# Altium integrated library Xilinx XC7000.IntLib: 173 symbols (part 3 of 9)
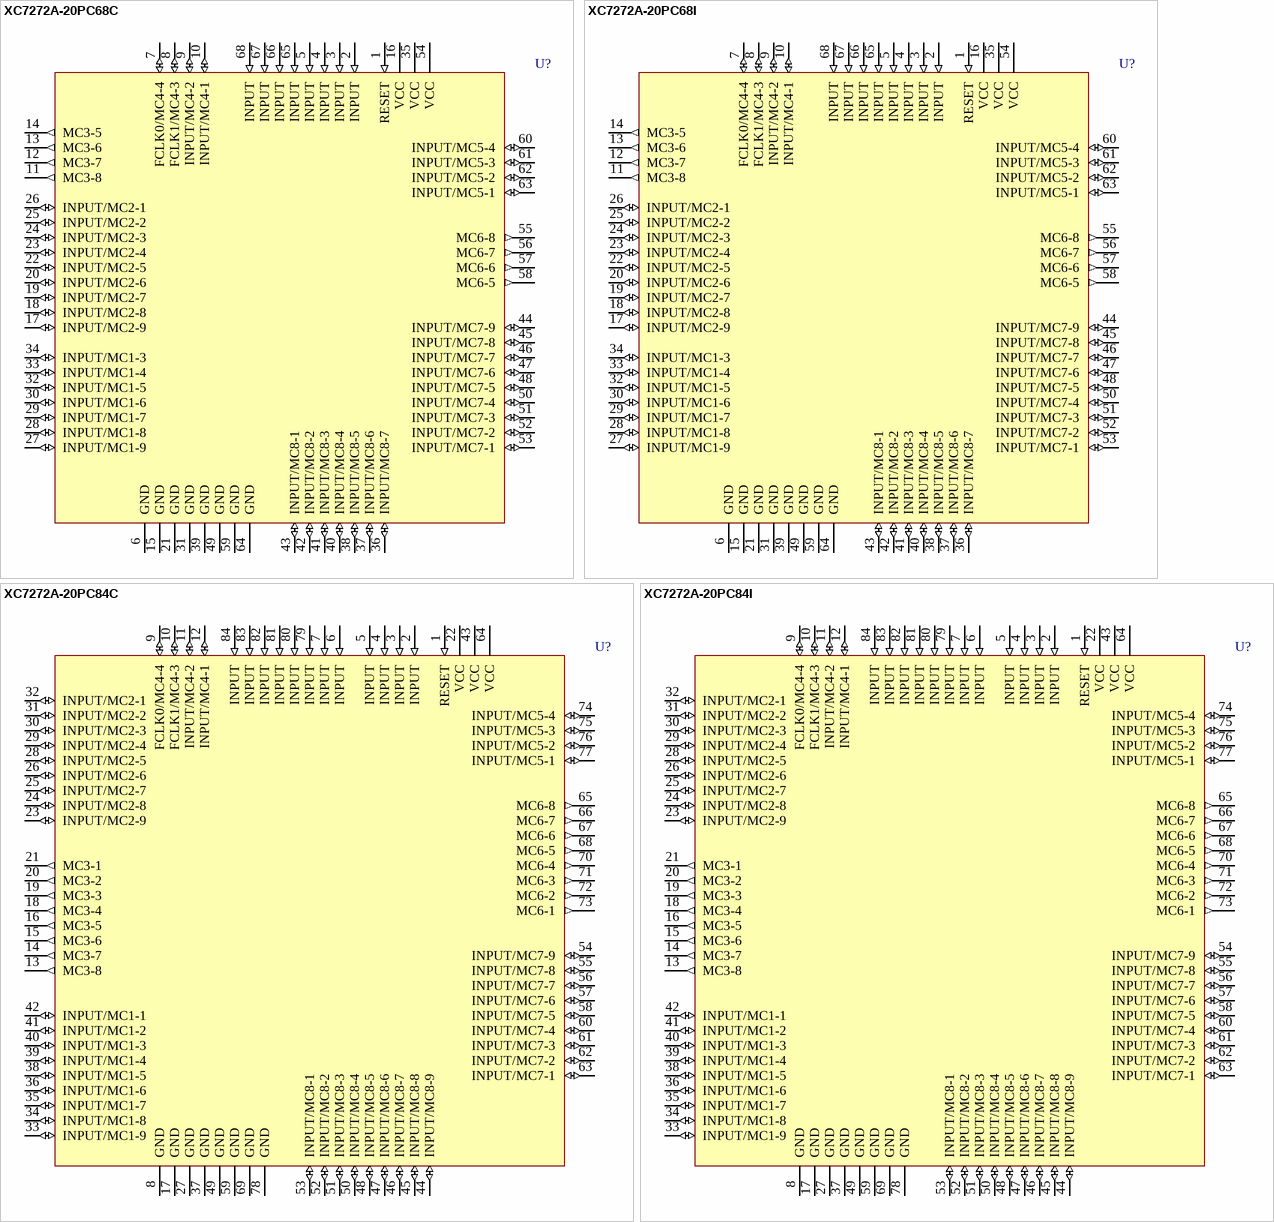
[diagram p49: symbols XC7272A-20PC68C to XC7272A-20PC84I]

## XC7272A-20PC68I
designator U?
72 Macrocell CMOS EPLD, with 38 I/O Pins, 68-Pin PLCC, Industrial Grade; Published: 8-Jun-2000; LatestRevisionDate: 13-Apr-2006; LatestRevisionNote: IPC-7351 Footprint Added.; DatasheetVersion: 1994; PackageVersion: ver1.2, Jun-2004; PackageReference: PC68; Publisher: Altium Limited; PackageDescription: 68-Pin Plastic Leaded Chip Carrier (PC68); Code_JEDEC: MO-047; Code_IPC: PLCC-68; ComponentLink1Description: Manufacturer Link; ComponentLink1URL: http://www.xilinx.com/; ComponentLink2Description: Discontinuation Notice; ComponentLink2URL: http://direct.xilinx.com/bvdocs/notifications/pdn97008a.pdf
footprint PC68_N (Leaded Chip Carrier, 68-Leads, Body 24x24mm, Pitch 1.27mm, IPC Medium Density)
footprint PC68_L (Leaded Chip Carrier, 68-Leads, Body 24x24mm, Pitch 1.27mm, IPC High Density)
footprint PC68_M (Leaded Chip Carrier, 68-Leads, Body 24x24mm, Pitch 1.27mm, IPC Low Density)
3D model XC7272A-PC68 (68-Pin Plastic Leaded Chip Carrier (PC68))
pins: 1 RESET (in), 2 INPUT (in), 3 INPUT (in), 4 INPUT (in), 5 INPUT (in), 6 GND (power), 7 FCLK0/MC4-4 (io), 8 FCLK1/MC4-3 (io), 9 INPUT/MC4-2 (io), 10 INPUT/MC4-1 (io), 11 MC3-8 (out), 12 MC3-7 (out), 13 MC3-6 (out), 14 MC3-5 (out), 15 GND (power), 16 VCC (power), 17 INPUT/MC2-9 (io), 18 INPUT/MC2-8 (io), 19 INPUT/MC2-7 (io), 20 INPUT/MC2-6 (io), 21 GND (power), 22 INPUT/MC2-5 (io), 23 INPUT/MC2-4 (io), 24 INPUT/MC2-3 (io), 25 INPUT/MC2-2 (io), 26 INPUT/MC2-1 (io), 27 INPUT/MC1-9 (io), 28 INPUT/MC1-8 (io), 29 INPUT/MC1-7 (io), 30 INPUT/MC1-6 (io), 31 GND (power), 32 INPUT/MC1-5 (io), 33 INPUT/MC1-4 (io), 34 INPUT/MC1-3 (io), 35 VCC (power), 36 INPUT/MC8-7 (io), 37 INPUT/MC8-6 (io), 38 INPUT/MC8-5 (io), 39 GND (power), 40 INPUT/MC8-4 (io), 41 INPUT/MC8-3 (io), 42 INPUT/MC8-2 (io), 43 INPUT/MC8-1 (io), 44 INPUT/MC7-9 (io), 45 INPUT/MC7-8 (io), 46 INPUT/MC7-7 (io), 47 INPUT/MC7-6 (io), 48 INPUT/MC7-5 (io), 49 GND (power), 50 INPUT/MC7-4 (io), 51 INPUT/MC7-3 (io), 52 INPUT/MC7-2 (io), 53 INPUT/MC7-1 (io), 54 VCC (power), 55 MC6-8 (out), 56 MC6-7 (out), 57 MC6-6 (out), 58 MC6-5 (out), 59 GND, 60 INPUT/MC5-4 (io), 61 INPUT/MC5-3 (io), 62 INPUT/MC5-2 (io), 63 INPUT/MC5-1 (io), 64 GND (power), 65 INPUT (in), 66 INPUT (in), 67 INPUT (in), 68 INPUT (in)

## XC7272A-20PC84C
designator U?
72 Macrocell CMOS EPLD, with 42 I/O Pins, 84-Pin PLCC, Commercial Grade; Published: 8-Jun-2000; LatestRevisionDate: 13-Apr-2006; LatestRevisionNote: IPC-7351 Footprint Added.; DatasheetVersion: 1994; PackageVersion: ver1.2, Jun-2004; PackageReference: PC84; Publisher: Altium Limited; PackageDescription: 84-Pin Plastic Leaded Chip Carrier (PC84); Code_JEDEC: MS-047; Code_IPC: PLCC-84; ComponentLink1Description: Manufacturer Link; ComponentLink1URL: http://www.xilinx.com/; ComponentLink2Description: Discontinuation Notice; ComponentLink2URL: http://direct.xilinx.com/bvdocs/notifications/pdn97008a.pdf
footprint PC84_N (Leaded Chip Carrier, 84-Leads, Body 29.3x29.3mm, Pitch 1.27mm, IPC Medium Density)
footprint PC84_L (Leaded Chip Carrier, 84-Leads, Body 29.3x29.3mm, Pitch 1.27mm, IPC High Density)
footprint PC84_M (Leaded Chip Carrier, 84-Leads, Body 29.3x29.3mm, Pitch 1.27mm, IPC Low Density)
3D model XC7272A-PC84 (84-Pin Plastic Leaded Chip Carrier (PC84))
pins: 1 RESET (in), 2 INPUT (in), 3 INPUT (in), 4 INPUT (in), 5 INPUT (in), 6 INPUT (in), 7 INPUT (in), 8 GND (power), 9 FCLK0/MC4-4 (io), 10 FCLK1/MC4-3 (io), 11 INPUT/MC4-2 (io), 12 INPUT/MC4-1 (io), 13 MC3-8 (out), 14 MC3-7 (out), 15 MC3-6 (out), 16 MC3-5 (out), 17 GND (power), 18 MC3-4 (out), 19 MC3-3 (out), 20 MC3-2 (out), 21 MC3-1 (out), 22 VCC (power), 23 INPUT/MC2-9 (io), 24 INPUT/MC2-8 (io), 25 INPUT/MC2-7 (io), 26 INPUT/MC2-6 (io), 27 GND (power), 28 INPUT/MC2-5 (io), 29 INPUT/MC2-4 (io), 30 INPUT/MC2-3 (io), 31 INPUT/MC2-2 (io), 32 INPUT/MC2-1 (io), 33 INPUT/MC1-9 (io), 34 INPUT/MC1-8 (io), 35 INPUT/MC1-7 (io), 36 INPUT/MC1-6 (io), 37 GND (power), 38 INPUT/MC1-5 (io), 39 INPUT/MC1-4 (io), 40 INPUT/MC1-3 (io), 41 INPUT/MC1-2 (io), 42 INPUT/MC1-1 (io), 43 VCC (power), 44 INPUT/MC8-9 (io), 45 INPUT/MC8-8 (io), 46 INPUT/MC8-7 (io), 47 INPUT/MC8-6 (io), 48 INPUT/MC8-5 (io), 49 GND (power), 50 INPUT/MC8-4 (io), 51 INPUT/MC8-3 (io), 52 INPUT/MC8-2 (io), 53 INPUT/MC8-1 (io), 54 INPUT/MC7-9 (io), 55 INPUT/MC7-8 (io), 56 INPUT/MC7-7 (io), 57 INPUT/MC7-6 (io), 58 INPUT/MC7-5 (io), 59 GND (power), 60 INPUT/MC7-4 (io), 61 INPUT/MC7-3 (io), 62 INPUT/MC7-2 (io), 63 INPUT/MC7-1 (io), 64 VCC (power), 65 MC6-8 (out), 66 MC6-7 (out), 67 MC6-6 (out), 68 MC6-5 (out), 69 GND (power), 70 MC6-4 (out), 71 MC6-3 (out), 72 MC6-2 (out), 73 MC6-1 (out), 74 INPUT/MC5-4 (io), 75 INPUT/MC5-3 (io), 76 INPUT/MC5-2 (io), 77 INPUT/MC5-1 (io), 78 GND (power), 79 INPUT (in), 80 INPUT (in), 81 INPUT (in), 82 INPUT (in), 83 INPUT (in), 84 INPUT (in)

## XC7272A-20PC84I
designator U?
72 Macrocell CMOS EPLD, with 42 I/O Pins, 84-Pin PLCC, Industrial Grade; Published: 8-Jun-2000; LatestRevisionDate: 13-Apr-2006; LatestRevisionNote: IPC-7351 Footprint Added.; DatasheetVersion: 1994; PackageVersion: ver1.2, Jun-2004; PackageReference: PC84; Publisher: Altium Limited; PackageDescription: 84-Pin Plastic Leaded Chip Carrier (PC84); Code_JEDEC: MS-047; Code_IPC: PLCC-84; ComponentLink1Description: Manufacturer Link; ComponentLink1URL: http://www.xilinx.com/; ComponentLink2Description: Discontinuation Notice; ComponentLink2URL: http://direct.xilinx.com/bvdocs/notifications/pdn97008a.pdf
footprint PC84_N (Leaded Chip Carrier, 84-Leads, Body 29.3x29.3mm, Pitch 1.27mm, IPC Medium Density)
footprint PC84_L (Leaded Chip Carrier, 84-Leads, Body 29.3x29.3mm, Pitch 1.27mm, IPC High Density)
footprint PC84_M (Leaded Chip Carrier, 84-Leads, Body 29.3x29.3mm, Pitch 1.27mm, IPC Low Density)
3D model XC7272A-PC84 (84-Pin Plastic Leaded Chip Carrier (PC84))
pins: 1 RESET (in), 2 INPUT (in), 3 INPUT (in), 4 INPUT (in), 5 INPUT (in), 6 INPUT (in), 7 INPUT (in), 8 GND (power), 9 FCLK0/MC4-4 (io), 10 FCLK1/MC4-3 (io), 11 INPUT/MC4-2 (io), 12 INPUT/MC4-1 (io), 13 MC3-8 (out), 14 MC3-7 (out), 15 MC3-6 (out), 16 MC3-5 (out), 17 GND (power), 18 MC3-4 (out), 19 MC3-3 (out), 20 MC3-2 (out), 21 MC3-1 (out), 22 VCC (power), 23 INPUT/MC2-9 (io), 24 INPUT/MC2-8 (io), 25 INPUT/MC2-7 (io), 26 INPUT/MC2-6 (io), 27 GND (power), 28 INPUT/MC2-5 (io), 29 INPUT/MC2-4 (io), 30 INPUT/MC2-3 (io), 31 INPUT/MC2-2 (io), 32 INPUT/MC2-1 (io), 33 INPUT/MC1-9 (io), 34 INPUT/MC1-8 (io), 35 INPUT/MC1-7 (io), 36 INPUT/MC1-6 (io), 37 GND (power), 38 INPUT/MC1-5 (io), 39 INPUT/MC1-4 (io), 40 INPUT/MC1-3 (io), 41 INPUT/MC1-2 (io), 42 INPUT/MC1-1 (io), 43 VCC (power), 44 INPUT/MC8-9 (io), 45 INPUT/MC8-8 (io), 46 INPUT/MC8-7 (io), 47 INPUT/MC8-6 (io), 48 INPUT/MC8-5 (io), 49 GND (power), 50 INPUT/MC8-4 (io), 51 INPUT/MC8-3 (io), 52 INPUT/MC8-2 (io), 53 INPUT/MC8-1 (io), 54 INPUT/MC7-9 (io), 55 INPUT/MC7-8 (io), 56 INPUT/MC7-7 (io), 57 INPUT/MC7-6 (io), 58 INPUT/MC7-5 (io), 59 GND (power), 60 INPUT/MC7-4 (io), 61 INPUT/MC7-3 (io), 62 INPUT/MC7-2 (io), 63 INPUT/MC7-1 (io), 64 VCC (power), 65 MC6-8 (out), 66 MC6-7 (out), 67 MC6-6 (out), 68 MC6-5 (out), 69 GND (power), 70 MC6-4 (out), 71 MC6-3 (out), 72 MC6-2 (out), 73 MC6-1 (out), 74 INPUT/MC5-4 (io), 75 INPUT/MC5-3 (io), 76 INPUT/MC5-2 (io), 77 INPUT/MC5-1 (io), 78 GND (power), 79 INPUT (in), 80 INPUT (in), 81 INPUT (in), 82 INPUT (in), 83 INPUT (in), 84 INPUT (in)

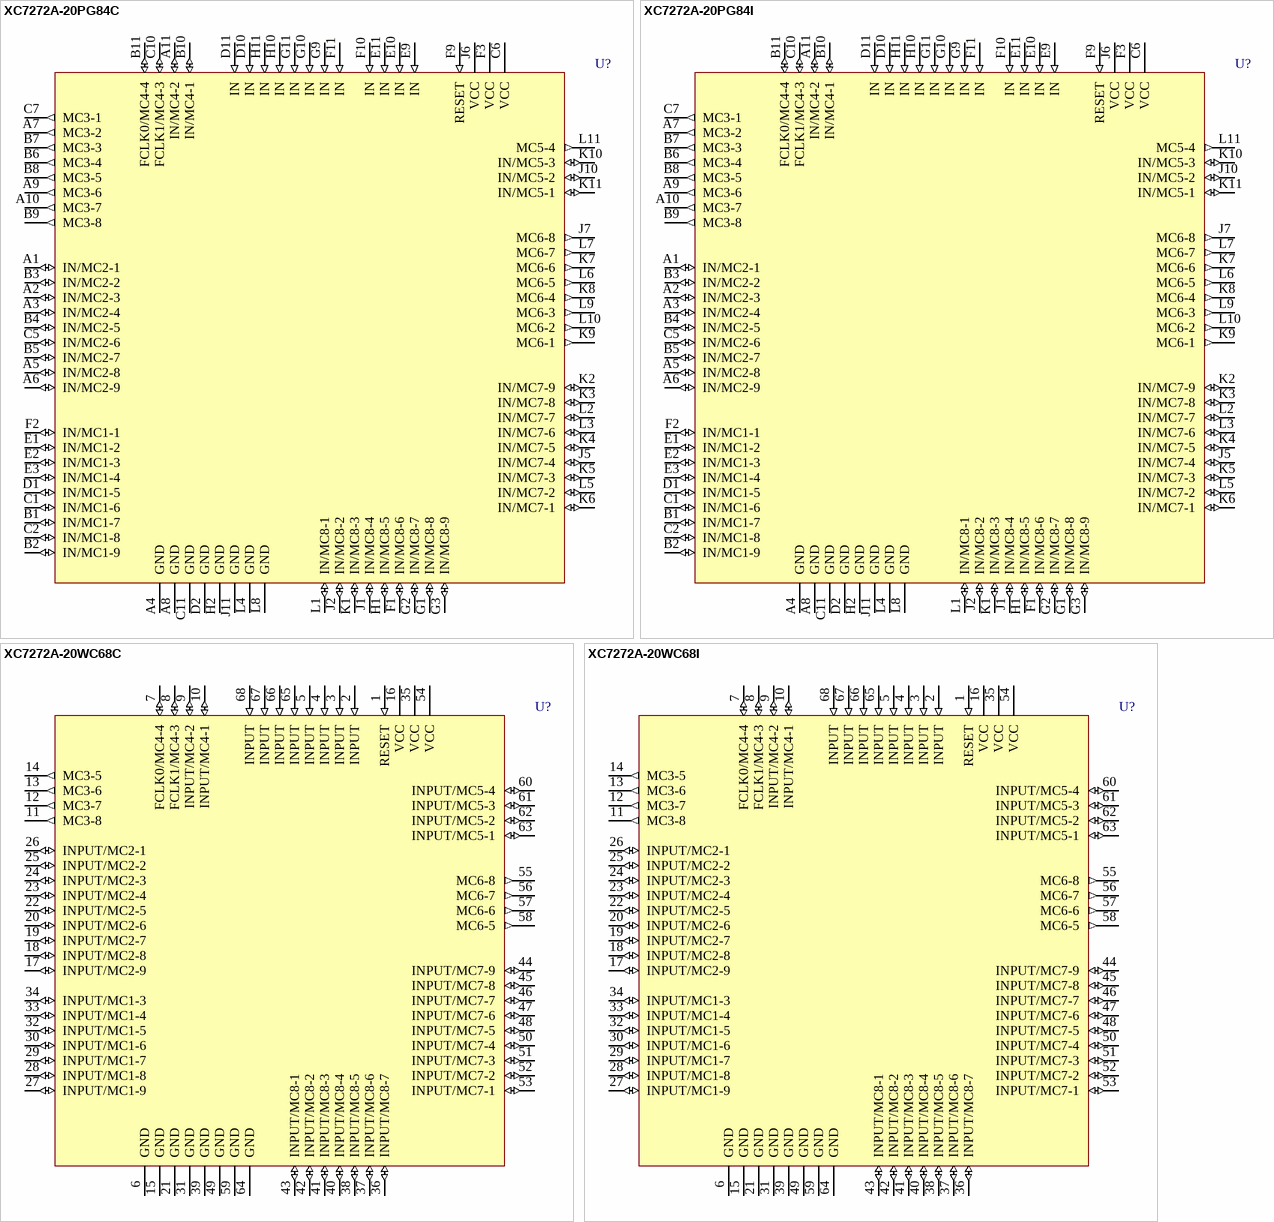
[diagram p10: symbols XC7272A-20PG84C to XC7272A-20WC68I]

## XC7272A-20PG84C
designator U?
72 Macrocell CMOS EPLD, with 42 I/O Pins, 84-Pin WCPGA, Commercial Grade; Published: 8-Jun-2000; LatestRevisionDate: 04-Mar-2005; LatestRevisionNote: Stylized 3D Model Added.; DatasheetVersion: 1994; PackageVersion: 1994; PackageReference: WG84; Publisher: Altium Limited; PackageDescription: 84-Pin Ceramic Window Pin Grid Array (WG84); ComponentLink1Description: Manufacturer Link; ComponentLink1URL: http://www.xilinx.com/; ComponentLink2Description: Discontinuation Notice; ComponentLink2URL: http://direct.xilinx.com/bvdocs/notifications/pdn97008a.pdf
footprint WG84 (PGA, 85-Leads, Body 28x28mm, Pitch 2.54mm)
3D model XC7272A-WG84 (84-Pin Ceramic Window Pin Grid Array (WG84))
pins: A1 IN/MC2-1 (io), A2 IN/MC2-3 (io), A3 IN/MC2-4 (io), A4 GND (power), A5 IN/MC2-8 (io), A6 IN/MC2-9 (io), A7 MC3-2 (out), A8 GND (power), A9 MC3-6 (out), A10 MC3-7 (out), A11 IN/MC4-2 (io), B1 IN/MC1-7 (io), B2 IN/MC1-9 (io), B3 IN/MC2-2 (io), B4 IN/MC2-5 (io), B5 IN/MC2-7 (io), B6 MC3-4 (out), B7 MC3-3 (out), B8 MC3-5 (out), B9 MC3-8 (out), B10 IN/MC4-1 (io), B11 FCLK0/MC4-4 (io), C1 IN/MC1-6 (io), C2 IN/MC1-8 (io), C5 IN/MC2-6 (io), C6 VCC (power), C7 MC3-1 (out), C10 FCLK1/MC4-3 (io), C11 GND (power), D1 IN/MC1-5 (io), D2 GND (power), D10 IN (in), D11 IN (in), E1 IN/MC1-2 (io), E2 IN/MC1-3 (io), E3 IN/MC1-4 (io), E9 IN (in), E10 IN (in), E11 IN (in), F1 IN/MC8-6 (io), F2 IN/MC1-1 (io), F3 VCC (power), F9 RESET (in), F10 IN (in), F11 IN (in), G1 IN/MC8-8 (io), G2 IN/MC8-7 (io), G3 IN/MC8-9 (io), G9 IN (in), G10 IN (in), G11 IN (in), H1 IN/MC8-5 (io), H2 GND (power), H10 IN (in), H11 IN (in), J1 IN/MC8-4 (io), J2 IN/MC8-2 (io), J5 IN/MC7-4 (io), J6 VCC (power), J7 MC6-8 (out), J10 IN/MC5-2 (io), J11 GND (power), K1 IN/MC8-3 (io), K2 IN/MC7-9 (io), K3 IN/MC7-8 (io), K4 IN/MC7-5 (io), K5 IN/MC7-3 (io), K6 IN/MC7-1 (io), K7 MC6-6 (out), K8 MC6-4 (out), K9 MC6-1 (out), K10 IN/MC5-3 (io), K11 IN/MC5-1 (io), L1 IN/MC8-1 (io), L2 IN/MC7-7 (io), L3 IN/MC7-6 (io), L4 GND (power), L5 IN/MC7-2 (io), L6 MC6-5 (out), L7 MC6-7 (out), L8 GND (power), L9 MC6-3 (out), L10 MC6-2 (out), L11 MC5-4 (out)

## XC7272A-20PG84I
designator U?
72 Macrocell CMOS EPLD, with 42 I/O Pins, 84-Pin WCPGA, Industrial Grade; Published: 8-Jun-2000; LatestRevisionDate: 04-Mar-2005; LatestRevisionNote: Stylized 3D Model Added.; DatasheetVersion: 1994; PackageVersion: 1994; PackageReference: WG84; Publisher: Altium Limited; PackageDescription: 84-Pin Ceramic Window Pin Grid Array (WG84); ComponentLink1Description: Manufacturer Link; ComponentLink1URL: http://www.xilinx.com/; ComponentLink2Description: Discontinuation Notice; ComponentLink2URL: http://direct.xilinx.com/bvdocs/notifications/pdn97008a.pdf
footprint WG84 (PGA, 85-Leads, Body 28x28mm, Pitch 2.54mm)
3D model XC7272A-WG84 (84-Pin Ceramic Window Pin Grid Array (WG84))
pins: A1 IN/MC2-1 (io), A2 IN/MC2-3 (io), A3 IN/MC2-4 (io), A4 GND (power), A5 IN/MC2-8 (io), A6 IN/MC2-9 (io), A7 MC3-2 (out), A8 GND (power), A9 MC3-6 (out), A10 MC3-7 (out), A11 IN/MC4-2 (io), B1 IN/MC1-7 (io), B2 IN/MC1-9 (io), B3 IN/MC2-2 (io), B4 IN/MC2-5 (io), B5 IN/MC2-7 (io), B6 MC3-4 (out), B7 MC3-3 (out), B8 MC3-5 (out), B9 MC3-8 (out), B10 IN/MC4-1 (io), B11 FCLK0/MC4-4 (io), C1 IN/MC1-6 (io), C2 IN/MC1-8 (io), C5 IN/MC2-6 (io), C6 VCC (power), C7 MC3-1 (out), C10 FCLK1/MC4-3 (io), C11 GND (power), D1 IN/MC1-5 (io), D2 GND (power), D10 IN (in), D11 IN (in), E1 IN/MC1-2 (io), E2 IN/MC1-3 (io), E3 IN/MC1-4 (io), E9 IN (in), E10 IN (in), E11 IN (in), F1 IN/MC8-6 (io), F2 IN/MC1-1 (io), F3 VCC (power), F9 RESET (in), F10 IN (in), F11 IN (in), G1 IN/MC8-8 (io), G2 IN/MC8-7 (io), G3 IN/MC8-9 (io), G9 IN (in), G10 IN (in), G11 IN (in), H1 IN/MC8-5 (io), H2 GND (power), H10 IN (in), H11 IN (in), J1 IN/MC8-4 (io), J2 IN/MC8-2 (io), J5 IN/MC7-4 (io), J6 VCC (power), J7 MC6-8 (out), J10 IN/MC5-2 (io), J11 GND (power), K1 IN/MC8-3 (io), K2 IN/MC7-9 (io), K3 IN/MC7-8 (io), K4 IN/MC7-5 (io), K5 IN/MC7-3 (io), K6 IN/MC7-1 (io), K7 MC6-6 (out), K8 MC6-4 (out), K9 MC6-1 (out), K10 IN/MC5-3 (io), K11 IN/MC5-1 (io), L1 IN/MC8-1 (io), L2 IN/MC7-7 (io), L3 IN/MC7-6 (io), L4 GND (power), L5 IN/MC7-2 (io), L6 MC6-5 (out), L7 MC6-7 (out), L8 GND (power), L9 MC6-3 (out), L10 MC6-2 (out), L11 MC5-4 (out)

## XC7272A-20WC68C
designator U?
72 Macrocell CMOS EPLD, with 38 I/O Pins, 68-Pin CLCC, Commercial Grade; Published: 8-Jun-2000; LatestRevisionDate: 13-Apr-2006; LatestRevisionNote: IPC-7351 Footprint Added.; DatasheetVersion: 1994; PackageVersion: 1994; PackageReference: WC68; Publisher: Altium Limited; PackageDescription: 68-Pin Window Ceramic Leaded Chip Carrier (WC68); Code_IPC: PLCC-68; ComponentLink1Description: Manufacturer Link; ComponentLink1URL: http://www.xilinx.com/; ComponentLink2Description: Discontinuation Notice; ComponentLink2URL: http://direct.xilinx.com/bvdocs/notifications/pdn97008a.pdf
footprint WC68_N (Leaded Chip Carrier, 68-Leads, Body 24x24mm, Pitch 1.27mm, IPC Medium Density)
footprint WC68_L (Leaded Chip Carrier, 68-Leads, Body 24x24mm, Pitch 1.27mm, IPC High Density)
footprint WC68_M (Leaded Chip Carrier, 68-Leads, Body 24x24mm, Pitch 1.27mm, IPC Low Density)
3D model XC7272A-WC68 (68-Pin Window Ceramic Leaded Chip Carrier (WC68))
pins: 1 RESET (in), 2 INPUT (in), 3 INPUT (in), 4 INPUT (in), 5 INPUT (in), 6 GND (power), 7 FCLK0/MC4-4 (io), 8 FCLK1/MC4-3 (io), 9 INPUT/MC4-2 (io), 10 INPUT/MC4-1 (io), 11 MC3-8 (out), 12 MC3-7 (out), 13 MC3-6 (out), 14 MC3-5 (out), 15 GND (power), 16 VCC (power), 17 INPUT/MC2-9 (io), 18 INPUT/MC2-8 (io), 19 INPUT/MC2-7 (io), 20 INPUT/MC2-6 (io), 21 GND (power), 22 INPUT/MC2-5 (io), 23 INPUT/MC2-4 (io), 24 INPUT/MC2-3 (io), 25 INPUT/MC2-2 (io), 26 INPUT/MC2-1 (io), 27 INPUT/MC1-9 (io), 28 INPUT/MC1-8 (io), 29 INPUT/MC1-7 (io), 30 INPUT/MC1-6 (io), 31 GND (power), 32 INPUT/MC1-5 (io), 33 INPUT/MC1-4 (io), 34 INPUT/MC1-3 (io), 35 VCC (power), 36 INPUT/MC8-7 (io), 37 INPUT/MC8-6 (io), 38 INPUT/MC8-5 (io), 39 GND (power), 40 INPUT/MC8-4 (io), 41 INPUT/MC8-3 (io), 42 INPUT/MC8-2 (io), 43 INPUT/MC8-1 (io), 44 INPUT/MC7-9 (io), 45 INPUT/MC7-8 (io), 46 INPUT/MC7-7 (io), 47 INPUT/MC7-6 (io), 48 INPUT/MC7-5 (io), 49 GND (power), 50 INPUT/MC7-4 (io), 51 INPUT/MC7-3 (io), 52 INPUT/MC7-2 (io), 53 INPUT/MC7-1 (io), 54 VCC (power), 55 MC6-8 (out), 56 MC6-7 (out), 57 MC6-6 (out), 58 MC6-5 (out), 59 GND, 60 INPUT/MC5-4 (io), 61 INPUT/MC5-3 (io), 62 INPUT/MC5-2 (io), 63 INPUT/MC5-1 (io), 64 GND (power), 65 INPUT (in), 66 INPUT (in), 67 INPUT (in), 68 INPUT (in)

## XC7272A-20WC68I
designator U?
72 Macrocell CMOS EPLD, with 38 I/O Pins, 68-Pin CLCC, Industrial Grade; Published: 8-Jun-2000; LatestRevisionDate: 13-Apr-2006; LatestRevisionNote: IPC-7351 Footprint Added.; DatasheetVersion: 1994; PackageVersion: 1994; PackageReference: WC68; Publisher: Altium Limited; PackageDescription: 68-Pin Window Ceramic Leaded Chip Carrier (WC68); Code_IPC: PLCC-68; ComponentLink1Description: Manufacturer Link; ComponentLink1URL: http://www.xilinx.com/; ComponentLink2Description: Discontinuation Notice; ComponentLink2URL: http://direct.xilinx.com/bvdocs/notifications/pdn97008a.pdf
footprint WC68_N (Leaded Chip Carrier, 68-Leads, Body 24x24mm, Pitch 1.27mm, IPC Medium Density)
footprint WC68_L (Leaded Chip Carrier, 68-Leads, Body 24x24mm, Pitch 1.27mm, IPC High Density)
footprint WC68_M (Leaded Chip Carrier, 68-Leads, Body 24x24mm, Pitch 1.27mm, IPC Low Density)
3D model XC7272A-WC68 (68-Pin Window Ceramic Leaded Chip Carrier (WC68))
pins: 1 RESET (in), 2 INPUT (in), 3 INPUT (in), 4 INPUT (in), 5 INPUT (in), 6 GND (power), 7 FCLK0/MC4-4 (io), 8 FCLK1/MC4-3 (io), 9 INPUT/MC4-2 (io), 10 INPUT/MC4-1 (io), 11 MC3-8 (out), 12 MC3-7 (out), 13 MC3-6 (out), 14 MC3-5 (out), 15 GND (power), 16 VCC (power), 17 INPUT/MC2-9 (io), 18 INPUT/MC2-8 (io), 19 INPUT/MC2-7 (io), 20 INPUT/MC2-6 (io), 21 GND (power), 22 INPUT/MC2-5 (io), 23 INPUT/MC2-4 (io), 24 INPUT/MC2-3 (io), 25 INPUT/MC2-2 (io), 26 INPUT/MC2-1 (io), 27 INPUT/MC1-9 (io), 28 INPUT/MC1-8 (io), 29 INPUT/MC1-7 (io), 30 INPUT/MC1-6 (io), 31 GND (power), 32 INPUT/MC1-5 (io), 33 INPUT/MC1-4 (io), 34 INPUT/MC1-3 (io), 35 VCC (power), 36 INPUT/MC8-7 (io), 37 INPUT/MC8-6 (io), 38 INPUT/MC8-5 (io), 39 GND (power), 40 INPUT/MC8-4 (io), 41 INPUT/MC8-3 (io), 42 INPUT/MC8-2 (io), 43 INPUT/MC8-1 (io), 44 INPUT/MC7-9 (io), 45 INPUT/MC7-8 (io), 46 INPUT/MC7-7 (io), 47 INPUT/MC7-6 (io), 48 INPUT/MC7-5 (io), 49 GND (power), 50 INPUT/MC7-4 (io), 51 INPUT/MC7-3 (io), 52 INPUT/MC7-2 (io), 53 INPUT/MC7-1 (io), 54 VCC (power), 55 MC6-8 (out), 56 MC6-7 (out), 57 MC6-6 (out), 58 MC6-5 (out), 59 GND, 60 INPUT/MC5-4 (io), 61 INPUT/MC5-3 (io), 62 INPUT/MC5-2 (io), 63 INPUT/MC5-1 (io), 64 GND (power), 65 INPUT (in), 66 INPUT (in), 67 INPUT (in), 68 INPUT (in)

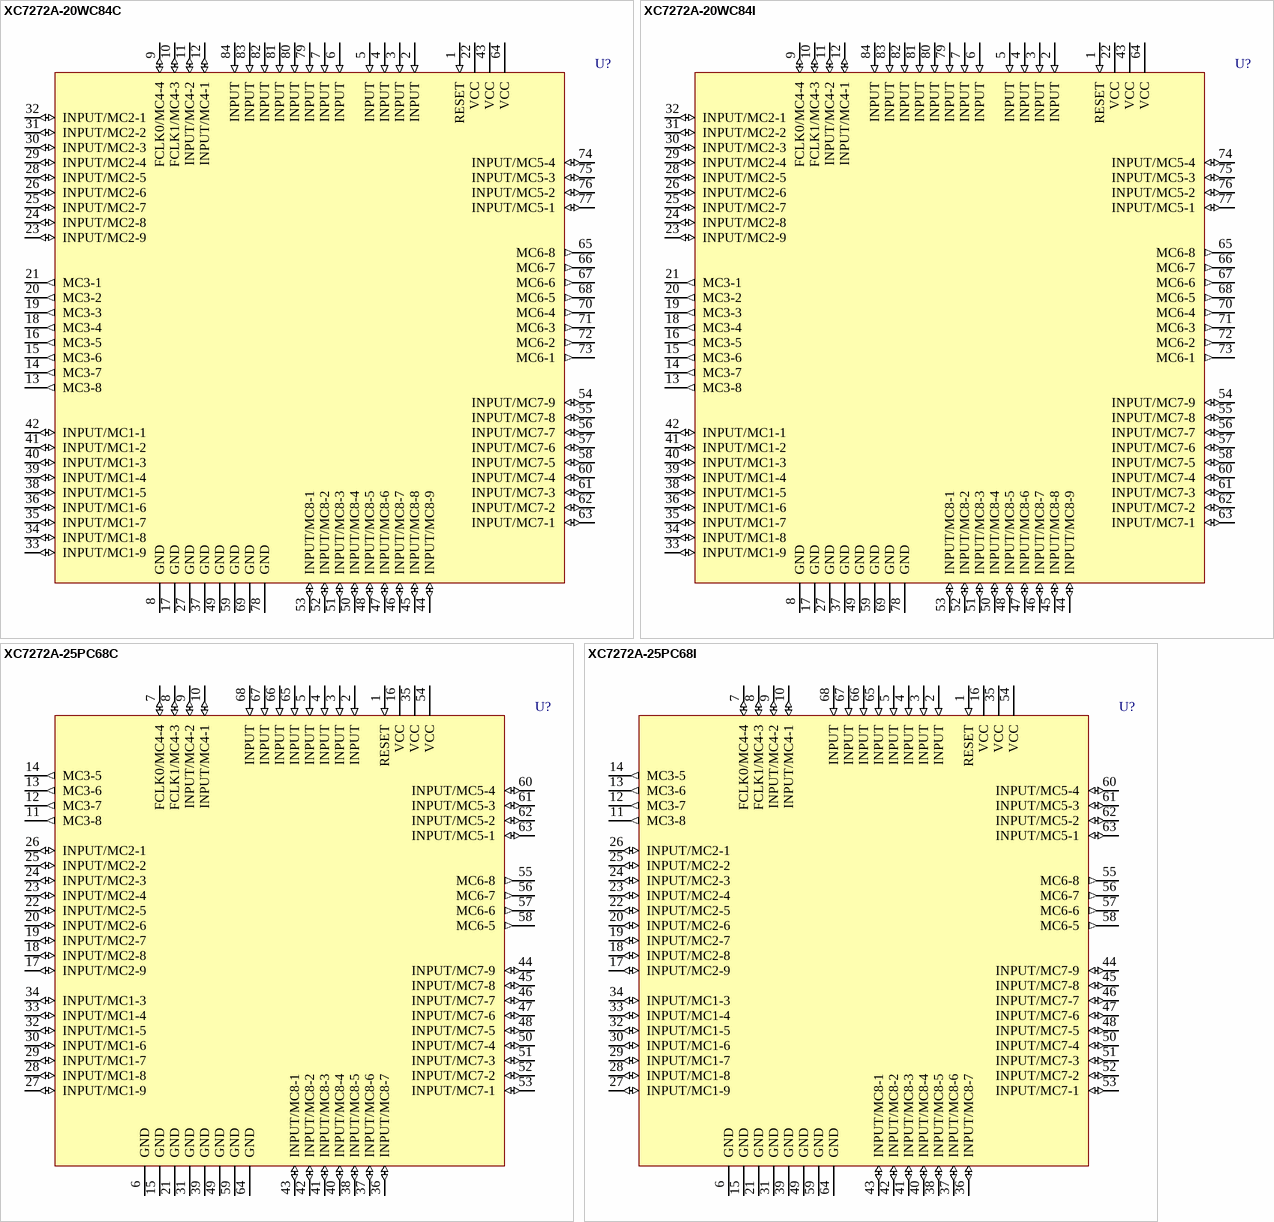
[diagram p11: symbols XC7272A-20WC84C to XC7272A-25PC68I]

## XC7272A-20WC84C
designator U?
72 Macrocell CMOS EPLD, with 42 I/O Pins, 84-Pin CLCC, Commercial Grade; Published: 8-Jun-2000; LatestRevisionDate: 13-Apr-2006; LatestRevisionNote: IPC-7351 Footprint Added.; DatasheetVersion: 1994; PackageVersion: 1994; PackageReference: WC84; Publisher: Altium Limited; PackageDescription: 84-Pin Window Ceramic Leaded Chip Carrier (WC84); Code_IPC: PLCC-84; ComponentLink1Description: Manufacturer Link; ComponentLink1URL: http://www.xilinx.com/; ComponentLink2Description: Discontinuation Notice; ComponentLink2URL: http://direct.xilinx.com/bvdocs/notifications/pdn97008a.pdf
footprint WC84_N (Leaded Chip Carrier, 84-Leads, Body 29x29mm, Pitch 1.27mm, IPC Medium Density)
footprint WC84_L (Leaded Chip Carrier, 84-Leads, Body 29x29mm, Pitch 1.27mm, IPC High Density)
footprint WC84_M (Leaded Chip Carrier, 84-Leads, Body 29x29mm, Pitch 1.27mm, IPC Low Density)
3D model XC7272A-WC84 (84-Pin Window Ceramic Leaded Chip Carrier (WC84))
pins: 1 RESET (in), 2 INPUT (in), 3 INPUT (in), 4 INPUT (in), 5 INPUT (in), 6 INPUT (in), 7 INPUT (in), 8 GND (power), 9 FCLK0/MC4-4 (io), 10 FCLK1/MC4-3 (io), 11 INPUT/MC4-2 (io), 12 INPUT/MC4-1 (io), 13 MC3-8 (out), 14 MC3-7 (out), 15 MC3-6 (out), 16 MC3-5 (out), 17 GND (power), 18 MC3-4 (out), 19 MC3-3 (out), 20 MC3-2 (out), 21 MC3-1 (out), 22 VCC (power), 23 INPUT/MC2-9 (io), 24 INPUT/MC2-8 (io), 25 INPUT/MC2-7 (io), 26 INPUT/MC2-6 (io), 27 GND (power), 28 INPUT/MC2-5 (io), 29 INPUT/MC2-4 (io), 30 INPUT/MC2-3 (io), 31 INPUT/MC2-2 (io), 32 INPUT/MC2-1 (io), 33 INPUT/MC1-9 (io), 34 INPUT/MC1-8 (io), 35 INPUT/MC1-7 (io), 36 INPUT/MC1-6 (io), 37 GND (power), 38 INPUT/MC1-5 (io), 39 INPUT/MC1-4 (io), 40 INPUT/MC1-3 (io), 41 INPUT/MC1-2 (io), 42 INPUT/MC1-1 (io), 43 VCC (power), 44 INPUT/MC8-9 (io), 45 INPUT/MC8-8 (io), 46 INPUT/MC8-7 (io), 47 INPUT/MC8-6 (io), 48 INPUT/MC8-5 (io), 49 GND (power), 50 INPUT/MC8-4 (io), 51 INPUT/MC8-3 (io), 52 INPUT/MC8-2 (io), 53 INPUT/MC8-1 (io), 54 INPUT/MC7-9 (io), 55 INPUT/MC7-8 (io), 56 INPUT/MC7-7 (io), 57 INPUT/MC7-6 (io), 58 INPUT/MC7-5 (io), 59 GND (power), 60 INPUT/MC7-4 (io), 61 INPUT/MC7-3 (io), 62 INPUT/MC7-2 (io), 63 INPUT/MC7-1 (io), 64 VCC (power), 65 MC6-8 (out), 66 MC6-7 (out), 67 MC6-6 (out), 68 MC6-5 (out), 69 GND (power), 70 MC6-4 (out), 71 MC6-3 (out), 72 MC6-2 (out), 73 MC6-1 (out), 74 INPUT/MC5-4 (io), 75 INPUT/MC5-3 (io), 76 INPUT/MC5-2 (io), 77 INPUT/MC5-1 (io), 78 GND (power), 79 INPUT (in), 80 INPUT (in), 81 INPUT (in), 82 INPUT (in), 83 INPUT (in), 84 INPUT (in)

## XC7272A-20WC84I
designator U?
72 Macrocell CMOS EPLD, with 42 I/O Pins, 84-Pin CLCC, Industrial Grade; Published: 8-Jun-2000; LatestRevisionDate: 13-Apr-2006; LatestRevisionNote: IPC-7351 Footprint Added.; DatasheetVersion: 1994; PackageVersion: 1994; PackageReference: WC84; Publisher: Altium Limited; PackageDescription: 84-Pin Window Ceramic Leaded Chip Carrier (WC84); Code_IPC: PLCC-84; ComponentLink1Description: Manufacturer Link; ComponentLink1URL: http://www.xilinx.com/; ComponentLink2Description: Discontinuation Notice; ComponentLink2URL: http://direct.xilinx.com/bvdocs/notifications/pdn97008a.pdf
footprint WC84_N (Leaded Chip Carrier, 84-Leads, Body 29x29mm, Pitch 1.27mm, IPC Medium Density)
footprint WC84_L (Leaded Chip Carrier, 84-Leads, Body 29x29mm, Pitch 1.27mm, IPC High Density)
footprint WC84_M (Leaded Chip Carrier, 84-Leads, Body 29x29mm, Pitch 1.27mm, IPC Low Density)
3D model XC7272A-WC84 (84-Pin Window Ceramic Leaded Chip Carrier (WC84))
pins: 1 RESET (in), 2 INPUT (in), 3 INPUT (in), 4 INPUT (in), 5 INPUT (in), 6 INPUT (in), 7 INPUT (in), 8 GND (power), 9 FCLK0/MC4-4 (io), 10 FCLK1/MC4-3 (io), 11 INPUT/MC4-2 (io), 12 INPUT/MC4-1 (io), 13 MC3-8 (out), 14 MC3-7 (out), 15 MC3-6 (out), 16 MC3-5 (out), 17 GND (power), 18 MC3-4 (out), 19 MC3-3 (out), 20 MC3-2 (out), 21 MC3-1 (out), 22 VCC (power), 23 INPUT/MC2-9 (io), 24 INPUT/MC2-8 (io), 25 INPUT/MC2-7 (io), 26 INPUT/MC2-6 (io), 27 GND (power), 28 INPUT/MC2-5 (io), 29 INPUT/MC2-4 (io), 30 INPUT/MC2-3 (io), 31 INPUT/MC2-2 (io), 32 INPUT/MC2-1 (io), 33 INPUT/MC1-9 (io), 34 INPUT/MC1-8 (io), 35 INPUT/MC1-7 (io), 36 INPUT/MC1-6 (io), 37 GND (power), 38 INPUT/MC1-5 (io), 39 INPUT/MC1-4 (io), 40 INPUT/MC1-3 (io), 41 INPUT/MC1-2 (io), 42 INPUT/MC1-1 (io), 43 VCC (power), 44 INPUT/MC8-9 (io), 45 INPUT/MC8-8 (io), 46 INPUT/MC8-7 (io), 47 INPUT/MC8-6 (io), 48 INPUT/MC8-5 (io), 49 GND (power), 50 INPUT/MC8-4 (io), 51 INPUT/MC8-3 (io), 52 INPUT/MC8-2 (io), 53 INPUT/MC8-1 (io), 54 INPUT/MC7-9 (io), 55 INPUT/MC7-8 (io), 56 INPUT/MC7-7 (io), 57 INPUT/MC7-6 (io), 58 INPUT/MC7-5 (io), 59 GND (power), 60 INPUT/MC7-4 (io), 61 INPUT/MC7-3 (io), 62 INPUT/MC7-2 (io), 63 INPUT/MC7-1 (io), 64 VCC (power), 65 MC6-8 (out), 66 MC6-7 (out), 67 MC6-6 (out), 68 MC6-5 (out), 69 GND (power), 70 MC6-4 (out), 71 MC6-3 (out), 72 MC6-2 (out), 73 MC6-1 (out), 74 INPUT/MC5-4 (io), 75 INPUT/MC5-3 (io), 76 INPUT/MC5-2 (io), 77 INPUT/MC5-1 (io), 78 GND (power), 79 INPUT (in), 80 INPUT (in), 81 INPUT (in), 82 INPUT (in), 83 INPUT (in), 84 INPUT (in)

## XC7272A-25PC68C
designator U?
72 Macrocell CMOS EPLD, with 38 I/O Pins, 68-Pin PLCC, Commercial Grade; Published: 8-Jun-2000; LatestRevisionDate: 13-Apr-2006; LatestRevisionNote: IPC-7351 Footprint Added.; DatasheetVersion: 1994; PackageVersion: ver1.2, Jun-2004; PackageReference: PC68; Publisher: Altium Limited; PackageDescription: 68-Pin Plastic Leaded Chip Carrier (PC68); Code_JEDEC: MO-047; Code_IPC: PLCC-68; ComponentLink1Description: Manufacturer Link; ComponentLink1URL: http://www.xilinx.com/; ComponentLink2Description: Discontinuation Notice; ComponentLink2URL: http://direct.xilinx.com/bvdocs/notifications/pdn97008a.pdf
footprint PC68_N (Leaded Chip Carrier, 68-Leads, Body 24x24mm, Pitch 1.27mm, IPC Medium Density)
footprint PC68_L (Leaded Chip Carrier, 68-Leads, Body 24x24mm, Pitch 1.27mm, IPC High Density)
footprint PC68_M (Leaded Chip Carrier, 68-Leads, Body 24x24mm, Pitch 1.27mm, IPC Low Density)
3D model XC7272A-PC68 (68-Pin Plastic Leaded Chip Carrier (PC68))
pins: 1 RESET (in), 2 INPUT (in), 3 INPUT (in), 4 INPUT (in), 5 INPUT (in), 6 GND (power), 7 FCLK0/MC4-4 (io), 8 FCLK1/MC4-3 (io), 9 INPUT/MC4-2 (io), 10 INPUT/MC4-1 (io), 11 MC3-8 (out), 12 MC3-7 (out), 13 MC3-6 (out), 14 MC3-5 (out), 15 GND (power), 16 VCC (power), 17 INPUT/MC2-9 (io), 18 INPUT/MC2-8 (io), 19 INPUT/MC2-7 (io), 20 INPUT/MC2-6 (io), 21 GND (power), 22 INPUT/MC2-5 (io), 23 INPUT/MC2-4 (io), 24 INPUT/MC2-3 (io), 25 INPUT/MC2-2 (io), 26 INPUT/MC2-1 (io), 27 INPUT/MC1-9 (io), 28 INPUT/MC1-8 (io), 29 INPUT/MC1-7 (io), 30 INPUT/MC1-6 (io), 31 GND (power), 32 INPUT/MC1-5 (io), 33 INPUT/MC1-4 (io), 34 INPUT/MC1-3 (io), 35 VCC (power), 36 INPUT/MC8-7 (io), 37 INPUT/MC8-6 (io), 38 INPUT/MC8-5 (io), 39 GND (power), 40 INPUT/MC8-4 (io), 41 INPUT/MC8-3 (io), 42 INPUT/MC8-2 (io), 43 INPUT/MC8-1 (io), 44 INPUT/MC7-9 (io), 45 INPUT/MC7-8 (io), 46 INPUT/MC7-7 (io), 47 INPUT/MC7-6 (io), 48 INPUT/MC7-5 (io), 49 GND (power), 50 INPUT/MC7-4 (io), 51 INPUT/MC7-3 (io), 52 INPUT/MC7-2 (io), 53 INPUT/MC7-1 (io), 54 VCC (power), 55 MC6-8 (out), 56 MC6-7 (out), 57 MC6-6 (out), 58 MC6-5 (out), 59 GND, 60 INPUT/MC5-4 (io), 61 INPUT/MC5-3 (io), 62 INPUT/MC5-2 (io), 63 INPUT/MC5-1 (io), 64 GND (power), 65 INPUT (in), 66 INPUT (in), 67 INPUT (in), 68 INPUT (in)

## XC7272A-25PC68I
designator U?
72 Macrocell CMOS EPLD, with 38 I/O Pins, 68-Pin PLCC, Industrial Grade; Published: 8-Jun-2000; LatestRevisionDate: 13-Apr-2006; LatestRevisionNote: IPC-7351 Footprint Added.; DatasheetVersion: 1994; PackageVersion: ver1.2, Jun-2004; PackageReference: PC68; Publisher: Altium Limited; PackageDescription: 68-Pin Plastic Leaded Chip Carrier (PC68); Code_JEDEC: MO-047; Code_IPC: PLCC-68; ComponentLink1Description: Manufacturer Link; ComponentLink1URL: http://www.xilinx.com/; ComponentLink2Description: Discontinuation Notice; ComponentLink2URL: http://direct.xilinx.com/bvdocs/notifications/pdn97008a.pdf
footprint PC68_N (Leaded Chip Carrier, 68-Leads, Body 24x24mm, Pitch 1.27mm, IPC Medium Density)
footprint PC68_L (Leaded Chip Carrier, 68-Leads, Body 24x24mm, Pitch 1.27mm, IPC High Density)
footprint PC68_M (Leaded Chip Carrier, 68-Leads, Body 24x24mm, Pitch 1.27mm, IPC Low Density)
3D model XC7272A-PC68 (68-Pin Plastic Leaded Chip Carrier (PC68))
pins: 1 RESET (in), 2 INPUT (in), 3 INPUT (in), 4 INPUT (in), 5 INPUT (in), 6 GND (power), 7 FCLK0/MC4-4 (io), 8 FCLK1/MC4-3 (io), 9 INPUT/MC4-2 (io), 10 INPUT/MC4-1 (io), 11 MC3-8 (out), 12 MC3-7 (out), 13 MC3-6 (out), 14 MC3-5 (out), 15 GND (power), 16 VCC (power), 17 INPUT/MC2-9 (io), 18 INPUT/MC2-8 (io), 19 INPUT/MC2-7 (io), 20 INPUT/MC2-6 (io), 21 GND (power), 22 INPUT/MC2-5 (io), 23 INPUT/MC2-4 (io), 24 INPUT/MC2-3 (io), 25 INPUT/MC2-2 (io), 26 INPUT/MC2-1 (io), 27 INPUT/MC1-9 (io), 28 INPUT/MC1-8 (io), 29 INPUT/MC1-7 (io), 30 INPUT/MC1-6 (io), 31 GND (power), 32 INPUT/MC1-5 (io), 33 INPUT/MC1-4 (io), 34 INPUT/MC1-3 (io), 35 VCC (power), 36 INPUT/MC8-7 (io), 37 INPUT/MC8-6 (io), 38 INPUT/MC8-5 (io), 39 GND (power), 40 INPUT/MC8-4 (io), 41 INPUT/MC8-3 (io), 42 INPUT/MC8-2 (io), 43 INPUT/MC8-1 (io), 44 INPUT/MC7-9 (io), 45 INPUT/MC7-8 (io), 46 INPUT/MC7-7 (io), 47 INPUT/MC7-6 (io), 48 INPUT/MC7-5 (io), 49 GND (power), 50 INPUT/MC7-4 (io), 51 INPUT/MC7-3 (io), 52 INPUT/MC7-2 (io), 53 INPUT/MC7-1 (io), 54 VCC (power), 55 MC6-8 (out), 56 MC6-7 (out), 57 MC6-6 (out), 58 MC6-5 (out), 59 GND, 60 INPUT/MC5-4 (io), 61 INPUT/MC5-3 (io), 62 INPUT/MC5-2 (io), 63 INPUT/MC5-1 (io), 64 GND (power), 65 INPUT (in), 66 INPUT (in), 67 INPUT (in), 68 INPUT (in)

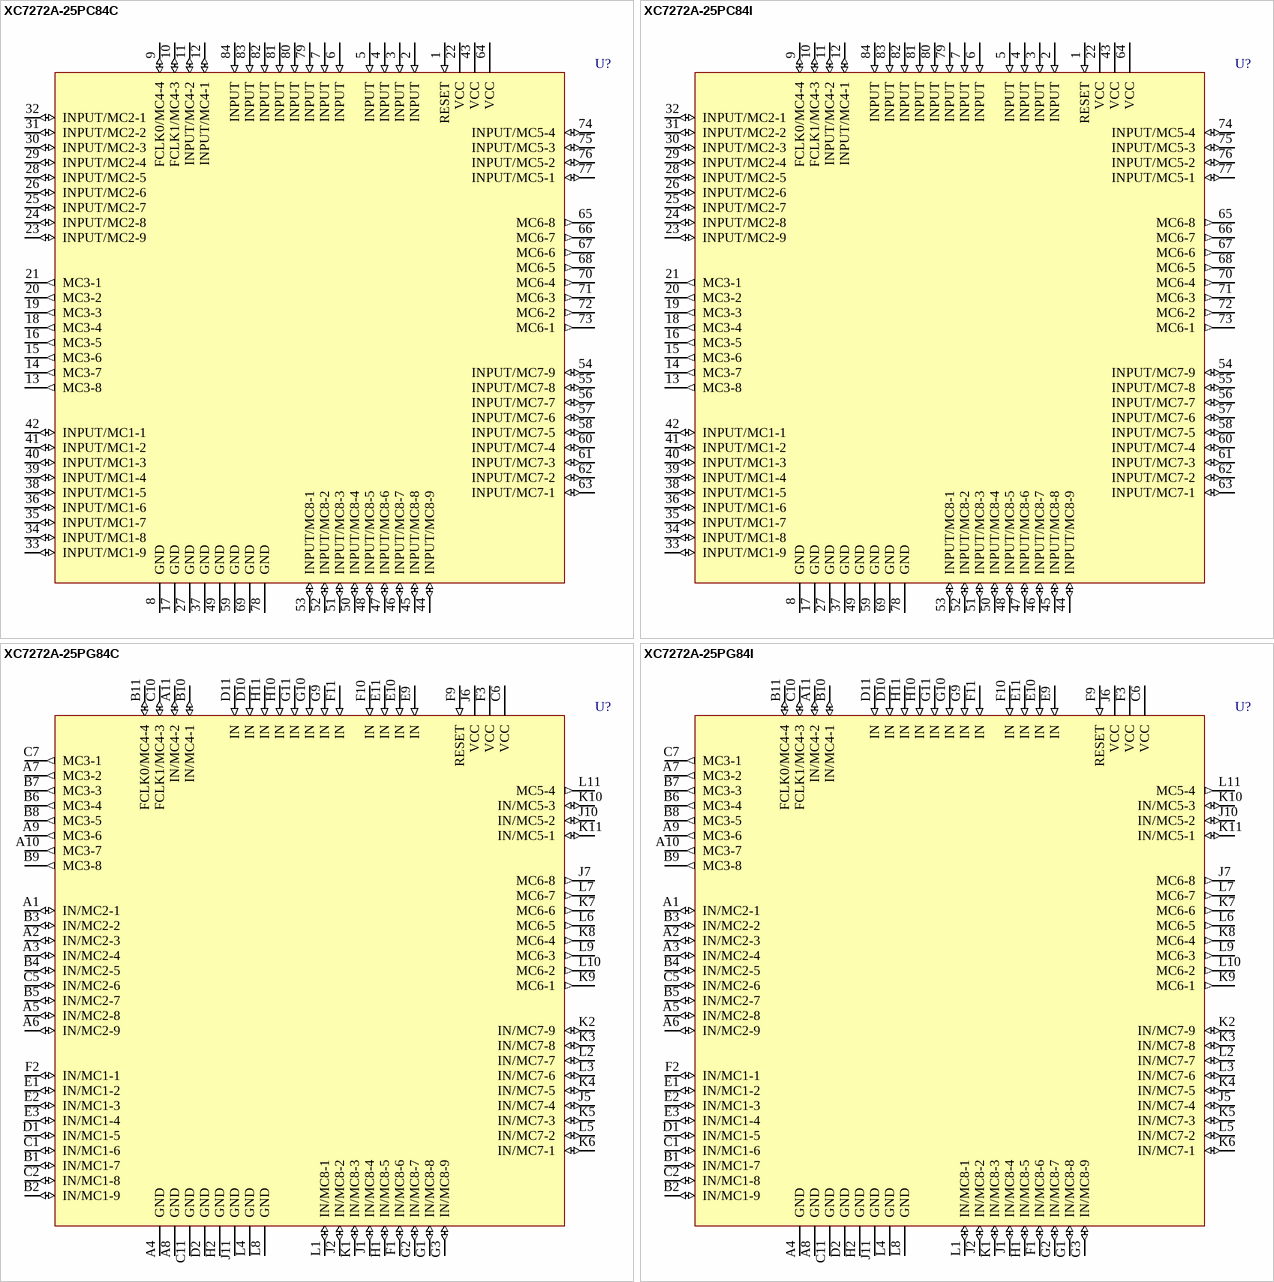
[diagram p12: symbols XC7272A-25PC84C to XC7272A-25PG84I]

## XC7272A-25PC84C
designator U?
72 Macrocell CMOS EPLD, with 42 I/O Pins, 84-Pin PLCC, Commercial Grade; Published: 8-Jun-2000; LatestRevisionDate: 13-Apr-2006; LatestRevisionNote: IPC-7351 Footprint Added.; DatasheetVersion: 1994; PackageVersion: ver1.2, Jun-2004; PackageReference: PC84; Publisher: Altium Limited; PackageDescription: 84-Pin Plastic Leaded Chip Carrier (PC84); Code_JEDEC: MS-047; Code_IPC: PLCC-84; ComponentLink1Description: Manufacturer Link; ComponentLink1URL: http://www.xilinx.com/; ComponentLink2Description: Discontinuation Notice; ComponentLink2URL: http://direct.xilinx.com/bvdocs/notifications/pdn97008a.pdf
footprint PC84_N (Leaded Chip Carrier, 84-Leads, Body 29.3x29.3mm, Pitch 1.27mm, IPC Medium Density)
footprint PC84_L (Leaded Chip Carrier, 84-Leads, Body 29.3x29.3mm, Pitch 1.27mm, IPC High Density)
footprint PC84_M (Leaded Chip Carrier, 84-Leads, Body 29.3x29.3mm, Pitch 1.27mm, IPC Low Density)
3D model XC7272A-PC84 (84-Pin Plastic Leaded Chip Carrier (PC84))
pins: 1 RESET (in), 2 INPUT (in), 3 INPUT (in), 4 INPUT (in), 5 INPUT (in), 6 INPUT (in), 7 INPUT (in), 8 GND (power), 9 FCLK0/MC4-4 (io), 10 FCLK1/MC4-3 (io), 11 INPUT/MC4-2 (io), 12 INPUT/MC4-1 (io), 13 MC3-8 (out), 14 MC3-7 (out), 15 MC3-6 (out), 16 MC3-5 (out), 17 GND (power), 18 MC3-4 (out), 19 MC3-3 (out), 20 MC3-2 (out), 21 MC3-1 (out), 22 VCC (power), 23 INPUT/MC2-9 (io), 24 INPUT/MC2-8 (io), 25 INPUT/MC2-7 (io), 26 INPUT/MC2-6 (io), 27 GND (power), 28 INPUT/MC2-5 (io), 29 INPUT/MC2-4 (io), 30 INPUT/MC2-3 (io), 31 INPUT/MC2-2 (io), 32 INPUT/MC2-1 (io), 33 INPUT/MC1-9 (io), 34 INPUT/MC1-8 (io), 35 INPUT/MC1-7 (io), 36 INPUT/MC1-6 (io), 37 GND (power), 38 INPUT/MC1-5 (io), 39 INPUT/MC1-4 (io), 40 INPUT/MC1-3 (io), 41 INPUT/MC1-2 (io), 42 INPUT/MC1-1 (io), 43 VCC (power), 44 INPUT/MC8-9 (io), 45 INPUT/MC8-8 (io), 46 INPUT/MC8-7 (io), 47 INPUT/MC8-6 (io), 48 INPUT/MC8-5 (io), 49 GND (power), 50 INPUT/MC8-4 (io), 51 INPUT/MC8-3 (io), 52 INPUT/MC8-2 (io), 53 INPUT/MC8-1 (io), 54 INPUT/MC7-9 (io), 55 INPUT/MC7-8 (io), 56 INPUT/MC7-7 (io), 57 INPUT/MC7-6 (io), 58 INPUT/MC7-5 (io), 59 GND (power), 60 INPUT/MC7-4 (io), 61 INPUT/MC7-3 (io), 62 INPUT/MC7-2 (io), 63 INPUT/MC7-1 (io), 64 VCC (power), 65 MC6-8 (out), 66 MC6-7 (out), 67 MC6-6 (out), 68 MC6-5 (out), 69 GND (power), 70 MC6-4 (out), 71 MC6-3 (out), 72 MC6-2 (out), 73 MC6-1 (out), 74 INPUT/MC5-4 (io), 75 INPUT/MC5-3 (io), 76 INPUT/MC5-2 (io), 77 INPUT/MC5-1 (io), 78 GND (power), 79 INPUT (in), 80 INPUT (in), 81 INPUT (in), 82 INPUT (in), 83 INPUT (in), 84 INPUT (in)

## XC7272A-25PC84I
designator U?
72 Macrocell CMOS EPLD, with 42 I/O Pins, 84-Pin PLCC, Industrial Grade; Published: 8-Jun-2000; LatestRevisionDate: 13-Apr-2006; LatestRevisionNote: IPC-7351 Footprint Added.; DatasheetVersion: 1994; PackageVersion: ver1.2, Jun-2004; PackageReference: PC84; Publisher: Altium Limited; PackageDescription: 84-Pin Plastic Leaded Chip Carrier (PC84); Code_JEDEC: MS-047; Code_IPC: PLCC-84; ComponentLink1Description: Manufacturer Link; ComponentLink1URL: http://www.xilinx.com/; ComponentLink2Description: Discontinuation Notice; ComponentLink2URL: http://direct.xilinx.com/bvdocs/notifications/pdn97008a.pdf
footprint PC84_N (Leaded Chip Carrier, 84-Leads, Body 29.3x29.3mm, Pitch 1.27mm, IPC Medium Density)
footprint PC84_L (Leaded Chip Carrier, 84-Leads, Body 29.3x29.3mm, Pitch 1.27mm, IPC High Density)
footprint PC84_M (Leaded Chip Carrier, 84-Leads, Body 29.3x29.3mm, Pitch 1.27mm, IPC Low Density)
3D model XC7272A-PC84 (84-Pin Plastic Leaded Chip Carrier (PC84))
pins: 1 RESET (in), 2 INPUT (in), 3 INPUT (in), 4 INPUT (in), 5 INPUT (in), 6 INPUT (in), 7 INPUT (in), 8 GND (power), 9 FCLK0/MC4-4 (io), 10 FCLK1/MC4-3 (io), 11 INPUT/MC4-2 (io), 12 INPUT/MC4-1 (io), 13 MC3-8 (out), 14 MC3-7 (out), 15 MC3-6 (out), 16 MC3-5 (out), 17 GND (power), 18 MC3-4 (out), 19 MC3-3 (out), 20 MC3-2 (out), 21 MC3-1 (out), 22 VCC (power), 23 INPUT/MC2-9 (io), 24 INPUT/MC2-8 (io), 25 INPUT/MC2-7 (io), 26 INPUT/MC2-6 (io), 27 GND (power), 28 INPUT/MC2-5 (io), 29 INPUT/MC2-4 (io), 30 INPUT/MC2-3 (io), 31 INPUT/MC2-2 (io), 32 INPUT/MC2-1 (io), 33 INPUT/MC1-9 (io), 34 INPUT/MC1-8 (io), 35 INPUT/MC1-7 (io), 36 INPUT/MC1-6 (io), 37 GND (power), 38 INPUT/MC1-5 (io), 39 INPUT/MC1-4 (io), 40 INPUT/MC1-3 (io), 41 INPUT/MC1-2 (io), 42 INPUT/MC1-1 (io), 43 VCC (power), 44 INPUT/MC8-9 (io), 45 INPUT/MC8-8 (io), 46 INPUT/MC8-7 (io), 47 INPUT/MC8-6 (io), 48 INPUT/MC8-5 (io), 49 GND (power), 50 INPUT/MC8-4 (io), 51 INPUT/MC8-3 (io), 52 INPUT/MC8-2 (io), 53 INPUT/MC8-1 (io), 54 INPUT/MC7-9 (io), 55 INPUT/MC7-8 (io), 56 INPUT/MC7-7 (io), 57 INPUT/MC7-6 (io), 58 INPUT/MC7-5 (io), 59 GND (power), 60 INPUT/MC7-4 (io), 61 INPUT/MC7-3 (io), 62 INPUT/MC7-2 (io), 63 INPUT/MC7-1 (io), 64 VCC (power), 65 MC6-8 (out), 66 MC6-7 (out), 67 MC6-6 (out), 68 MC6-5 (out), 69 GND (power), 70 MC6-4 (out), 71 MC6-3 (out), 72 MC6-2 (out), 73 MC6-1 (out), 74 INPUT/MC5-4 (io), 75 INPUT/MC5-3 (io), 76 INPUT/MC5-2 (io), 77 INPUT/MC5-1 (io), 78 GND (power), 79 INPUT (in), 80 INPUT (in), 81 INPUT (in), 82 INPUT (in), 83 INPUT (in), 84 INPUT (in)

## XC7272A-25PG84C
designator U?
72 Macrocell CMOS EPLD, with 42 I/O Pins, 84-Pin WCPGA, Commercial Grade; Published: 8-Jun-2000; LatestRevisionDate: 04-Mar-2005; LatestRevisionNote: Stylized 3D Model Added.; DatasheetVersion: 1994; PackageVersion: 1994; PackageReference: WG84; Publisher: Altium Limited; PackageDescription: 84-Pin Ceramic Window Pin Grid Array (WG84); ComponentLink1Description: Manufacturer Link; ComponentLink1URL: http://www.xilinx.com/; ComponentLink2Description: Discontinuation Notice; ComponentLink2URL: http://direct.xilinx.com/bvdocs/notifications/pdn97008a.pdf
footprint WG84 (PGA, 85-Leads, Body 28x28mm, Pitch 2.54mm)
3D model XC7272A-WG84 (84-Pin Ceramic Window Pin Grid Array (WG84))
pins: A1 IN/MC2-1 (io), A2 IN/MC2-3 (io), A3 IN/MC2-4 (io), A4 GND (power), A5 IN/MC2-8 (io), A6 IN/MC2-9 (io), A7 MC3-2 (out), A8 GND (power), A9 MC3-6 (out), A10 MC3-7 (out), A11 IN/MC4-2 (io), B1 IN/MC1-7 (io), B2 IN/MC1-9 (io), B3 IN/MC2-2 (io), B4 IN/MC2-5 (io), B5 IN/MC2-7 (io), B6 MC3-4 (out), B7 MC3-3 (out), B8 MC3-5 (out), B9 MC3-8 (out), B10 IN/MC4-1 (io), B11 FCLK0/MC4-4 (io), C1 IN/MC1-6 (io), C2 IN/MC1-8 (io), C5 IN/MC2-6 (io), C6 VCC (power), C7 MC3-1 (out), C10 FCLK1/MC4-3 (io), C11 GND (power), D1 IN/MC1-5 (io), D2 GND (power), D10 IN (in), D11 IN (in), E1 IN/MC1-2 (io), E2 IN/MC1-3 (io), E3 IN/MC1-4 (io), E9 IN (in), E10 IN (in), E11 IN (in), F1 IN/MC8-6 (io), F2 IN/MC1-1 (io), F3 VCC (power), F9 RESET (in), F10 IN (in), F11 IN (in), G1 IN/MC8-8 (io), G2 IN/MC8-7 (io), G3 IN/MC8-9 (io), G9 IN (in), G10 IN (in), G11 IN (in), H1 IN/MC8-5 (io), H2 GND (power), H10 IN (in), H11 IN (in), J1 IN/MC8-4 (io), J2 IN/MC8-2 (io), J5 IN/MC7-4 (io), J6 VCC (power), J7 MC6-8 (out), J10 IN/MC5-2 (io), J11 GND (power), K1 IN/MC8-3 (io), K2 IN/MC7-9 (io), K3 IN/MC7-8 (io), K4 IN/MC7-5 (io), K5 IN/MC7-3 (io), K6 IN/MC7-1 (io), K7 MC6-6 (out), K8 MC6-4 (out), K9 MC6-1 (out), K10 IN/MC5-3 (io), K11 IN/MC5-1 (io), L1 IN/MC8-1 (io), L2 IN/MC7-7 (io), L3 IN/MC7-6 (io), L4 GND (power), L5 IN/MC7-2 (io), L6 MC6-5 (out), L7 MC6-7 (out), L8 GND (power), L9 MC6-3 (out), L10 MC6-2 (out), L11 MC5-4 (out)

## XC7272A-25PG84I
designator U?
72 Macrocell CMOS EPLD, with 42 I/O Pins, 84-Pin WCPGA, Industrial Grade; Published: 8-Jun-2000; LatestRevisionDate: 04-Mar-2005; LatestRevisionNote: Stylized 3D Model Added.; DatasheetVersion: 1994; PackageVersion: 1994; PackageReference: WG84; Publisher: Altium Limited; PackageDescription: 84-Pin Ceramic Window Pin Grid Array (WG84); ComponentLink1Description: Manufacturer Link; ComponentLink1URL: http://www.xilinx.com/; ComponentLink2Description: Discontinuation Notice; ComponentLink2URL: http://direct.xilinx.com/bvdocs/notifications/pdn97008a.pdf
footprint WG84 (PGA, 85-Leads, Body 28x28mm, Pitch 2.54mm)
3D model XC7272A-WG84 (84-Pin Ceramic Window Pin Grid Array (WG84))
pins: A1 IN/MC2-1 (io), A2 IN/MC2-3 (io), A3 IN/MC2-4 (io), A4 GND (power), A5 IN/MC2-8 (io), A6 IN/MC2-9 (io), A7 MC3-2 (out), A8 GND (power), A9 MC3-6 (out), A10 MC3-7 (out), A11 IN/MC4-2 (io), B1 IN/MC1-7 (io), B2 IN/MC1-9 (io), B3 IN/MC2-2 (io), B4 IN/MC2-5 (io), B5 IN/MC2-7 (io), B6 MC3-4 (out), B7 MC3-3 (out), B8 MC3-5 (out), B9 MC3-8 (out), B10 IN/MC4-1 (io), B11 FCLK0/MC4-4 (io), C1 IN/MC1-6 (io), C2 IN/MC1-8 (io), C5 IN/MC2-6 (io), C6 VCC (power), C7 MC3-1 (out), C10 FCLK1/MC4-3 (io), C11 GND (power), D1 IN/MC1-5 (io), D2 GND (power), D10 IN (in), D11 IN (in), E1 IN/MC1-2 (io), E2 IN/MC1-3 (io), E3 IN/MC1-4 (io), E9 IN (in), E10 IN (in), E11 IN (in), F1 IN/MC8-6 (io), F2 IN/MC1-1 (io), F3 VCC (power), F9 RESET (in), F10 IN (in), F11 IN (in), G1 IN/MC8-8 (io), G2 IN/MC8-7 (io), G3 IN/MC8-9 (io), G9 IN (in), G10 IN (in), G11 IN (in), H1 IN/MC8-5 (io), H2 GND (power), H10 IN (in), H11 IN (in), J1 IN/MC8-4 (io), J2 IN/MC8-2 (io), J5 IN/MC7-4 (io), J6 VCC (power), J7 MC6-8 (out), J10 IN/MC5-2 (io), J11 GND (power), K1 IN/MC8-3 (io), K2 IN/MC7-9 (io), K3 IN/MC7-8 (io), K4 IN/MC7-5 (io), K5 IN/MC7-3 (io), K6 IN/MC7-1 (io), K7 MC6-6 (out), K8 MC6-4 (out), K9 MC6-1 (out), K10 IN/MC5-3 (io), K11 IN/MC5-1 (io), L1 IN/MC8-1 (io), L2 IN/MC7-7 (io), L3 IN/MC7-6 (io), L4 GND (power), L5 IN/MC7-2 (io), L6 MC6-5 (out), L7 MC6-7 (out), L8 GND (power), L9 MC6-3 (out), L10 MC6-2 (out), L11 MC5-4 (out)

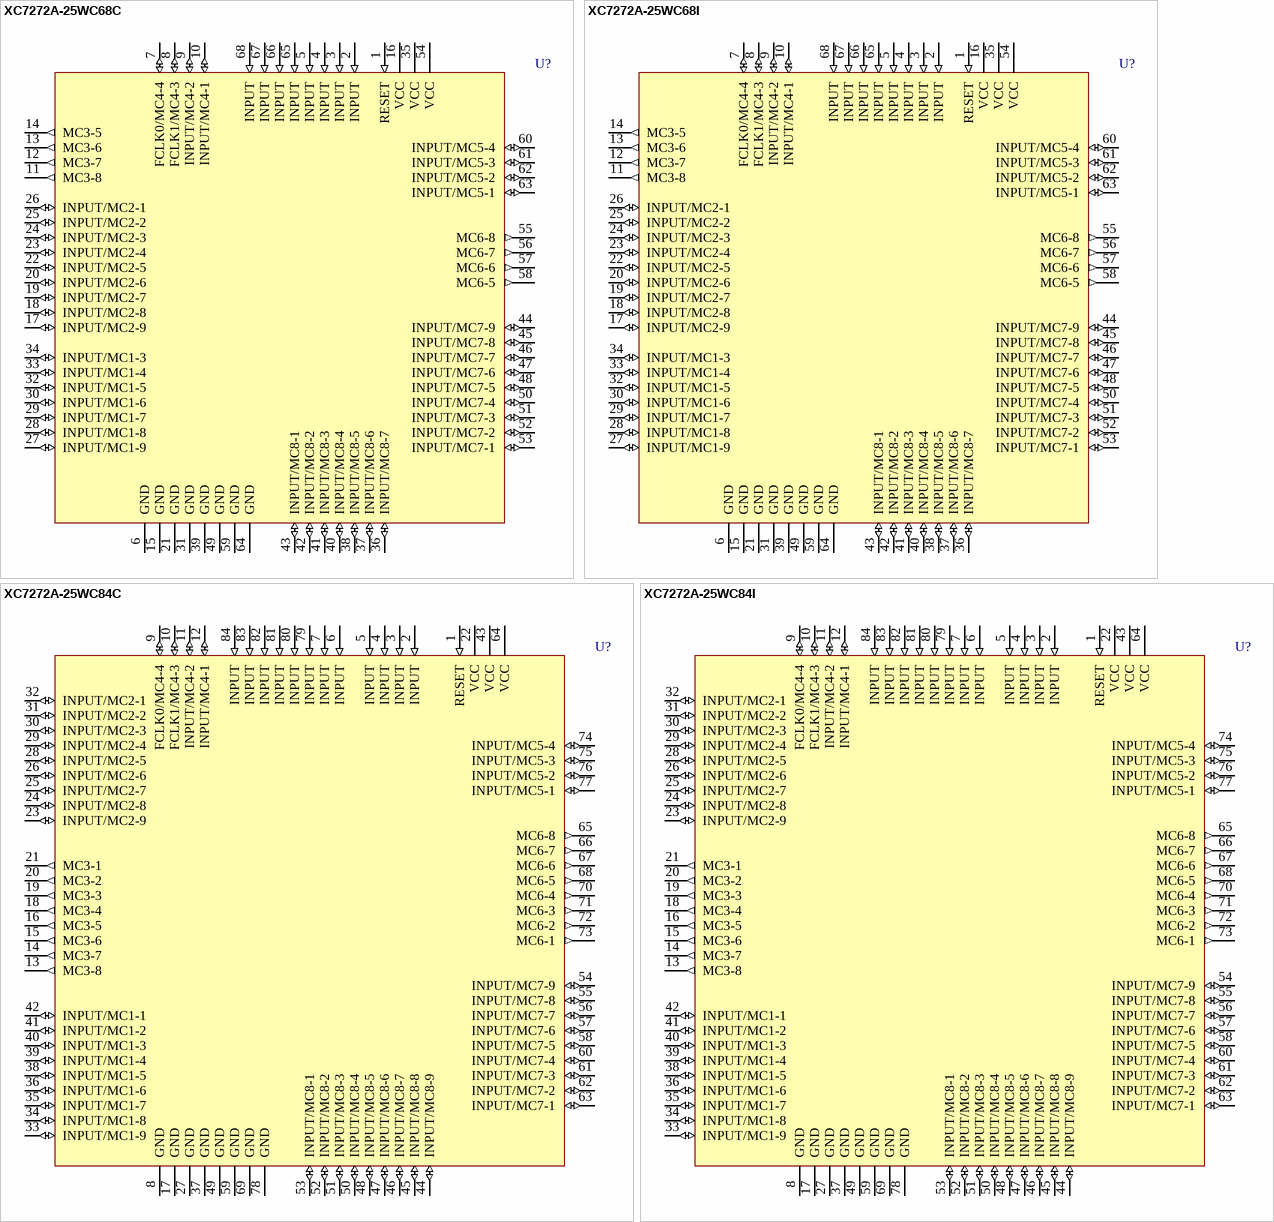
[diagram p13: symbols XC7272A-25WC68C to XC7272A-25WC84I]

## XC7272A-25WC68C
designator U?
72 Macrocell CMOS EPLD, with 38 I/O Pins, 68-Pin CLCC, Commercial Grade; Published: 8-Jun-2000; LatestRevisionDate: 13-Apr-2006; LatestRevisionNote: IPC-7351 Footprint Added.; DatasheetVersion: 1994; PackageVersion: 1994; PackageReference: WC68; Publisher: Altium Limited; PackageDescription: 68-Pin Window Ceramic Leaded Chip Carrier (WC68); Code_IPC: PLCC-68; ComponentLink1Description: Manufacturer Link; ComponentLink1URL: http://www.xilinx.com/; ComponentLink2Description: Discontinuation Notice; ComponentLink2URL: http://direct.xilinx.com/bvdocs/notifications/pdn97008a.pdf
footprint WC68_N (Leaded Chip Carrier, 68-Leads, Body 24x24mm, Pitch 1.27mm, IPC Medium Density)
footprint WC68_L (Leaded Chip Carrier, 68-Leads, Body 24x24mm, Pitch 1.27mm, IPC High Density)
footprint WC68_M (Leaded Chip Carrier, 68-Leads, Body 24x24mm, Pitch 1.27mm, IPC Low Density)
3D model XC7272A-WC68 (68-Pin Window Ceramic Leaded Chip Carrier (WC68))
pins: 1 RESET (in), 2 INPUT (in), 3 INPUT (in), 4 INPUT (in), 5 INPUT (in), 6 GND (power), 7 FCLK0/MC4-4 (io), 8 FCLK1/MC4-3 (io), 9 INPUT/MC4-2 (io), 10 INPUT/MC4-1 (io), 11 MC3-8 (out), 12 MC3-7 (out), 13 MC3-6 (out), 14 MC3-5 (out), 15 GND (power), 16 VCC (power), 17 INPUT/MC2-9 (io), 18 INPUT/MC2-8 (io), 19 INPUT/MC2-7 (io), 20 INPUT/MC2-6 (io), 21 GND (power), 22 INPUT/MC2-5 (io), 23 INPUT/MC2-4 (io), 24 INPUT/MC2-3 (io), 25 INPUT/MC2-2 (io), 26 INPUT/MC2-1 (io), 27 INPUT/MC1-9 (io), 28 INPUT/MC1-8 (io), 29 INPUT/MC1-7 (io), 30 INPUT/MC1-6 (io), 31 GND (power), 32 INPUT/MC1-5 (io), 33 INPUT/MC1-4 (io), 34 INPUT/MC1-3 (io), 35 VCC (power), 36 INPUT/MC8-7 (io), 37 INPUT/MC8-6 (io), 38 INPUT/MC8-5 (io), 39 GND (power), 40 INPUT/MC8-4 (io), 41 INPUT/MC8-3 (io), 42 INPUT/MC8-2 (io), 43 INPUT/MC8-1 (io), 44 INPUT/MC7-9 (io), 45 INPUT/MC7-8 (io), 46 INPUT/MC7-7 (io), 47 INPUT/MC7-6 (io), 48 INPUT/MC7-5 (io), 49 GND (power), 50 INPUT/MC7-4 (io), 51 INPUT/MC7-3 (io), 52 INPUT/MC7-2 (io), 53 INPUT/MC7-1 (io), 54 VCC (power), 55 MC6-8 (out), 56 MC6-7 (out), 57 MC6-6 (out), 58 MC6-5 (out), 59 GND, 60 INPUT/MC5-4 (io), 61 INPUT/MC5-3 (io), 62 INPUT/MC5-2 (io), 63 INPUT/MC5-1 (io), 64 GND (power), 65 INPUT (in), 66 INPUT (in), 67 INPUT (in), 68 INPUT (in)

## XC7272A-25WC68I
designator U?
72 Macrocell CMOS EPLD, with 38 I/O Pins, 68-Pin CLCC, Industrial Grade; Published: 8-Jun-2000; LatestRevisionDate: 13-Apr-2006; LatestRevisionNote: IPC-7351 Footprint Added.; DatasheetVersion: 1994; PackageVersion: 1994; PackageReference: WC68; Publisher: Altium Limited; PackageDescription: 68-Pin Window Ceramic Leaded Chip Carrier (WC68); Code_IPC: PLCC-68; ComponentLink1Description: Manufacturer Link; ComponentLink1URL: http://www.xilinx.com/; ComponentLink2Description: Discontinuation Notice; ComponentLink2URL: http://direct.xilinx.com/bvdocs/notifications/pdn97008a.pdf
footprint WC68_N (Leaded Chip Carrier, 68-Leads, Body 24x24mm, Pitch 1.27mm, IPC Medium Density)
footprint WC68_L (Leaded Chip Carrier, 68-Leads, Body 24x24mm, Pitch 1.27mm, IPC High Density)
footprint WC68_M (Leaded Chip Carrier, 68-Leads, Body 24x24mm, Pitch 1.27mm, IPC Low Density)
3D model XC7272A-WC68 (68-Pin Window Ceramic Leaded Chip Carrier (WC68))
pins: 1 RESET (in), 2 INPUT (in), 3 INPUT (in), 4 INPUT (in), 5 INPUT (in), 6 GND (power), 7 FCLK0/MC4-4 (io), 8 FCLK1/MC4-3 (io), 9 INPUT/MC4-2 (io), 10 INPUT/MC4-1 (io), 11 MC3-8 (out), 12 MC3-7 (out), 13 MC3-6 (out), 14 MC3-5 (out), 15 GND (power), 16 VCC (power), 17 INPUT/MC2-9 (io), 18 INPUT/MC2-8 (io), 19 INPUT/MC2-7 (io), 20 INPUT/MC2-6 (io), 21 GND (power), 22 INPUT/MC2-5 (io), 23 INPUT/MC2-4 (io), 24 INPUT/MC2-3 (io), 25 INPUT/MC2-2 (io), 26 INPUT/MC2-1 (io), 27 INPUT/MC1-9 (io), 28 INPUT/MC1-8 (io), 29 INPUT/MC1-7 (io), 30 INPUT/MC1-6 (io), 31 GND (power), 32 INPUT/MC1-5 (io), 33 INPUT/MC1-4 (io), 34 INPUT/MC1-3 (io), 35 VCC (power), 36 INPUT/MC8-7 (io), 37 INPUT/MC8-6 (io), 38 INPUT/MC8-5 (io), 39 GND (power), 40 INPUT/MC8-4 (io), 41 INPUT/MC8-3 (io), 42 INPUT/MC8-2 (io), 43 INPUT/MC8-1 (io), 44 INPUT/MC7-9 (io), 45 INPUT/MC7-8 (io), 46 INPUT/MC7-7 (io), 47 INPUT/MC7-6 (io), 48 INPUT/MC7-5 (io), 49 GND (power), 50 INPUT/MC7-4 (io), 51 INPUT/MC7-3 (io), 52 INPUT/MC7-2 (io), 53 INPUT/MC7-1 (io), 54 VCC (power), 55 MC6-8 (out), 56 MC6-7 (out), 57 MC6-6 (out), 58 MC6-5 (out), 59 GND, 60 INPUT/MC5-4 (io), 61 INPUT/MC5-3 (io), 62 INPUT/MC5-2 (io), 63 INPUT/MC5-1 (io), 64 GND (power), 65 INPUT (in), 66 INPUT (in), 67 INPUT (in), 68 INPUT (in)

## XC7272A-25WC84C
designator U?
72 Macrocell CMOS EPLD, with 42 I/O Pins, 84-Pin CLCC, Commercial Grade; Published: 8-Jun-2000; LatestRevisionDate: 13-Apr-2006; LatestRevisionNote: IPC-7351 Footprint Added.; DatasheetVersion: 1994; PackageVersion: 1994; PackageReference: WC84; Publisher: Altium Limited; PackageDescription: 84-Pin Window Ceramic Leaded Chip Carrier (WC84); Code_IPC: PLCC-84; ComponentLink1Description: Manufacturer Link; ComponentLink1URL: http://www.xilinx.com/; ComponentLink2Description: Discontinuation Notice; ComponentLink2URL: http://direct.xilinx.com/bvdocs/notifications/pdn97008a.pdf
footprint WC84_N (Leaded Chip Carrier, 84-Leads, Body 29x29mm, Pitch 1.27mm, IPC Medium Density)
footprint WC84_L (Leaded Chip Carrier, 84-Leads, Body 29x29mm, Pitch 1.27mm, IPC High Density)
footprint WC84_M (Leaded Chip Carrier, 84-Leads, Body 29x29mm, Pitch 1.27mm, IPC Low Density)
3D model XC7272A-WC84 (84-Pin Window Ceramic Leaded Chip Carrier (WC84))
pins: 1 RESET (in), 2 INPUT (in), 3 INPUT (in), 4 INPUT (in), 5 INPUT (in), 6 INPUT (in), 7 INPUT (in), 8 GND (power), 9 FCLK0/MC4-4 (io), 10 FCLK1/MC4-3 (io), 11 INPUT/MC4-2 (io), 12 INPUT/MC4-1 (io), 13 MC3-8 (out), 14 MC3-7 (out), 15 MC3-6 (out), 16 MC3-5 (out), 17 GND (power), 18 MC3-4 (out), 19 MC3-3 (out), 20 MC3-2 (out), 21 MC3-1 (out), 22 VCC (power), 23 INPUT/MC2-9 (io), 24 INPUT/MC2-8 (io), 25 INPUT/MC2-7 (io), 26 INPUT/MC2-6 (io), 27 GND (power), 28 INPUT/MC2-5 (io), 29 INPUT/MC2-4 (io), 30 INPUT/MC2-3 (io), 31 INPUT/MC2-2 (io), 32 INPUT/MC2-1 (io), 33 INPUT/MC1-9 (io), 34 INPUT/MC1-8 (io), 35 INPUT/MC1-7 (io), 36 INPUT/MC1-6 (io), 37 GND (power), 38 INPUT/MC1-5 (io), 39 INPUT/MC1-4 (io), 40 INPUT/MC1-3 (io), 41 INPUT/MC1-2 (io), 42 INPUT/MC1-1 (io), 43 VCC (power), 44 INPUT/MC8-9 (io), 45 INPUT/MC8-8 (io), 46 INPUT/MC8-7 (io), 47 INPUT/MC8-6 (io), 48 INPUT/MC8-5 (io), 49 GND (power), 50 INPUT/MC8-4 (io), 51 INPUT/MC8-3 (io), 52 INPUT/MC8-2 (io), 53 INPUT/MC8-1 (io), 54 INPUT/MC7-9 (io), 55 INPUT/MC7-8 (io), 56 INPUT/MC7-7 (io), 57 INPUT/MC7-6 (io), 58 INPUT/MC7-5 (io), 59 GND (power), 60 INPUT/MC7-4 (io), 61 INPUT/MC7-3 (io), 62 INPUT/MC7-2 (io), 63 INPUT/MC7-1 (io), 64 VCC (power), 65 MC6-8 (out), 66 MC6-7 (out), 67 MC6-6 (out), 68 MC6-5 (out), 69 GND (power), 70 MC6-4 (out), 71 MC6-3 (out), 72 MC6-2 (out), 73 MC6-1 (out), 74 INPUT/MC5-4 (io), 75 INPUT/MC5-3 (io), 76 INPUT/MC5-2 (io), 77 INPUT/MC5-1 (io), 78 GND (power), 79 INPUT (in), 80 INPUT (in), 81 INPUT (in), 82 INPUT (in), 83 INPUT (in), 84 INPUT (in)

## XC7272A-25WC84I
designator U?
72 Macrocell CMOS EPLD, with 42 I/O Pins, 84-Pin CLCC, Industrial Grade; Published: 8-Jun-2000; LatestRevisionDate: 13-Apr-2006; LatestRevisionNote: IPC-7351 Footprint Added.; DatasheetVersion: 1994; PackageVersion: 1994; PackageReference: WC84; Publisher: Altium Limited; PackageDescription: 84-Pin Window Ceramic Leaded Chip Carrier (WC84); Code_IPC: PLCC-84; ComponentLink1Description: Manufacturer Link; ComponentLink1URL: http://www.xilinx.com/; ComponentLink2Description: Discontinuation Notice; ComponentLink2URL: http://direct.xilinx.com/bvdocs/notifications/pdn97008a.pdf
footprint WC84_N (Leaded Chip Carrier, 84-Leads, Body 29x29mm, Pitch 1.27mm, IPC Medium Density)
footprint WC84_L (Leaded Chip Carrier, 84-Leads, Body 29x29mm, Pitch 1.27mm, IPC High Density)
footprint WC84_M (Leaded Chip Carrier, 84-Leads, Body 29x29mm, Pitch 1.27mm, IPC Low Density)
3D model XC7272A-WC84 (84-Pin Window Ceramic Leaded Chip Carrier (WC84))
pins: 1 RESET (in), 2 INPUT (in), 3 INPUT (in), 4 INPUT (in), 5 INPUT (in), 6 INPUT (in), 7 INPUT (in), 8 GND (power), 9 FCLK0/MC4-4 (io), 10 FCLK1/MC4-3 (io), 11 INPUT/MC4-2 (io), 12 INPUT/MC4-1 (io), 13 MC3-8 (out), 14 MC3-7 (out), 15 MC3-6 (out), 16 MC3-5 (out), 17 GND (power), 18 MC3-4 (out), 19 MC3-3 (out), 20 MC3-2 (out), 21 MC3-1 (out), 22 VCC (power), 23 INPUT/MC2-9 (io), 24 INPUT/MC2-8 (io), 25 INPUT/MC2-7 (io), 26 INPUT/MC2-6 (io), 27 GND (power), 28 INPUT/MC2-5 (io), 29 INPUT/MC2-4 (io), 30 INPUT/MC2-3 (io), 31 INPUT/MC2-2 (io), 32 INPUT/MC2-1 (io), 33 INPUT/MC1-9 (io), 34 INPUT/MC1-8 (io), 35 INPUT/MC1-7 (io), 36 INPUT/MC1-6 (io), 37 GND (power), 38 INPUT/MC1-5 (io), 39 INPUT/MC1-4 (io), 40 INPUT/MC1-3 (io), 41 INPUT/MC1-2 (io), 42 INPUT/MC1-1 (io), 43 VCC (power), 44 INPUT/MC8-9 (io), 45 INPUT/MC8-8 (io), 46 INPUT/MC8-7 (io), 47 INPUT/MC8-6 (io), 48 INPUT/MC8-5 (io), 49 GND (power), 50 INPUT/MC8-4 (io), 51 INPUT/MC8-3 (io), 52 INPUT/MC8-2 (io), 53 INPUT/MC8-1 (io), 54 INPUT/MC7-9 (io), 55 INPUT/MC7-8 (io), 56 INPUT/MC7-7 (io), 57 INPUT/MC7-6 (io), 58 INPUT/MC7-5 (io), 59 GND (power), 60 INPUT/MC7-4 (io), 61 INPUT/MC7-3 (io), 62 INPUT/MC7-2 (io), 63 INPUT/MC7-1 (io), 64 VCC (power), 65 MC6-8 (out), 66 MC6-7 (out), 67 MC6-6 (out), 68 MC6-5 (out), 69 GND (power), 70 MC6-4 (out), 71 MC6-3 (out), 72 MC6-2 (out), 73 MC6-1 (out), 74 INPUT/MC5-4 (io), 75 INPUT/MC5-3 (io), 76 INPUT/MC5-2 (io), 77 INPUT/MC5-1 (io), 78 GND (power), 79 INPUT (in), 80 INPUT (in), 81 INPUT (in), 82 INPUT (in), 83 INPUT (in), 84 INPUT (in)

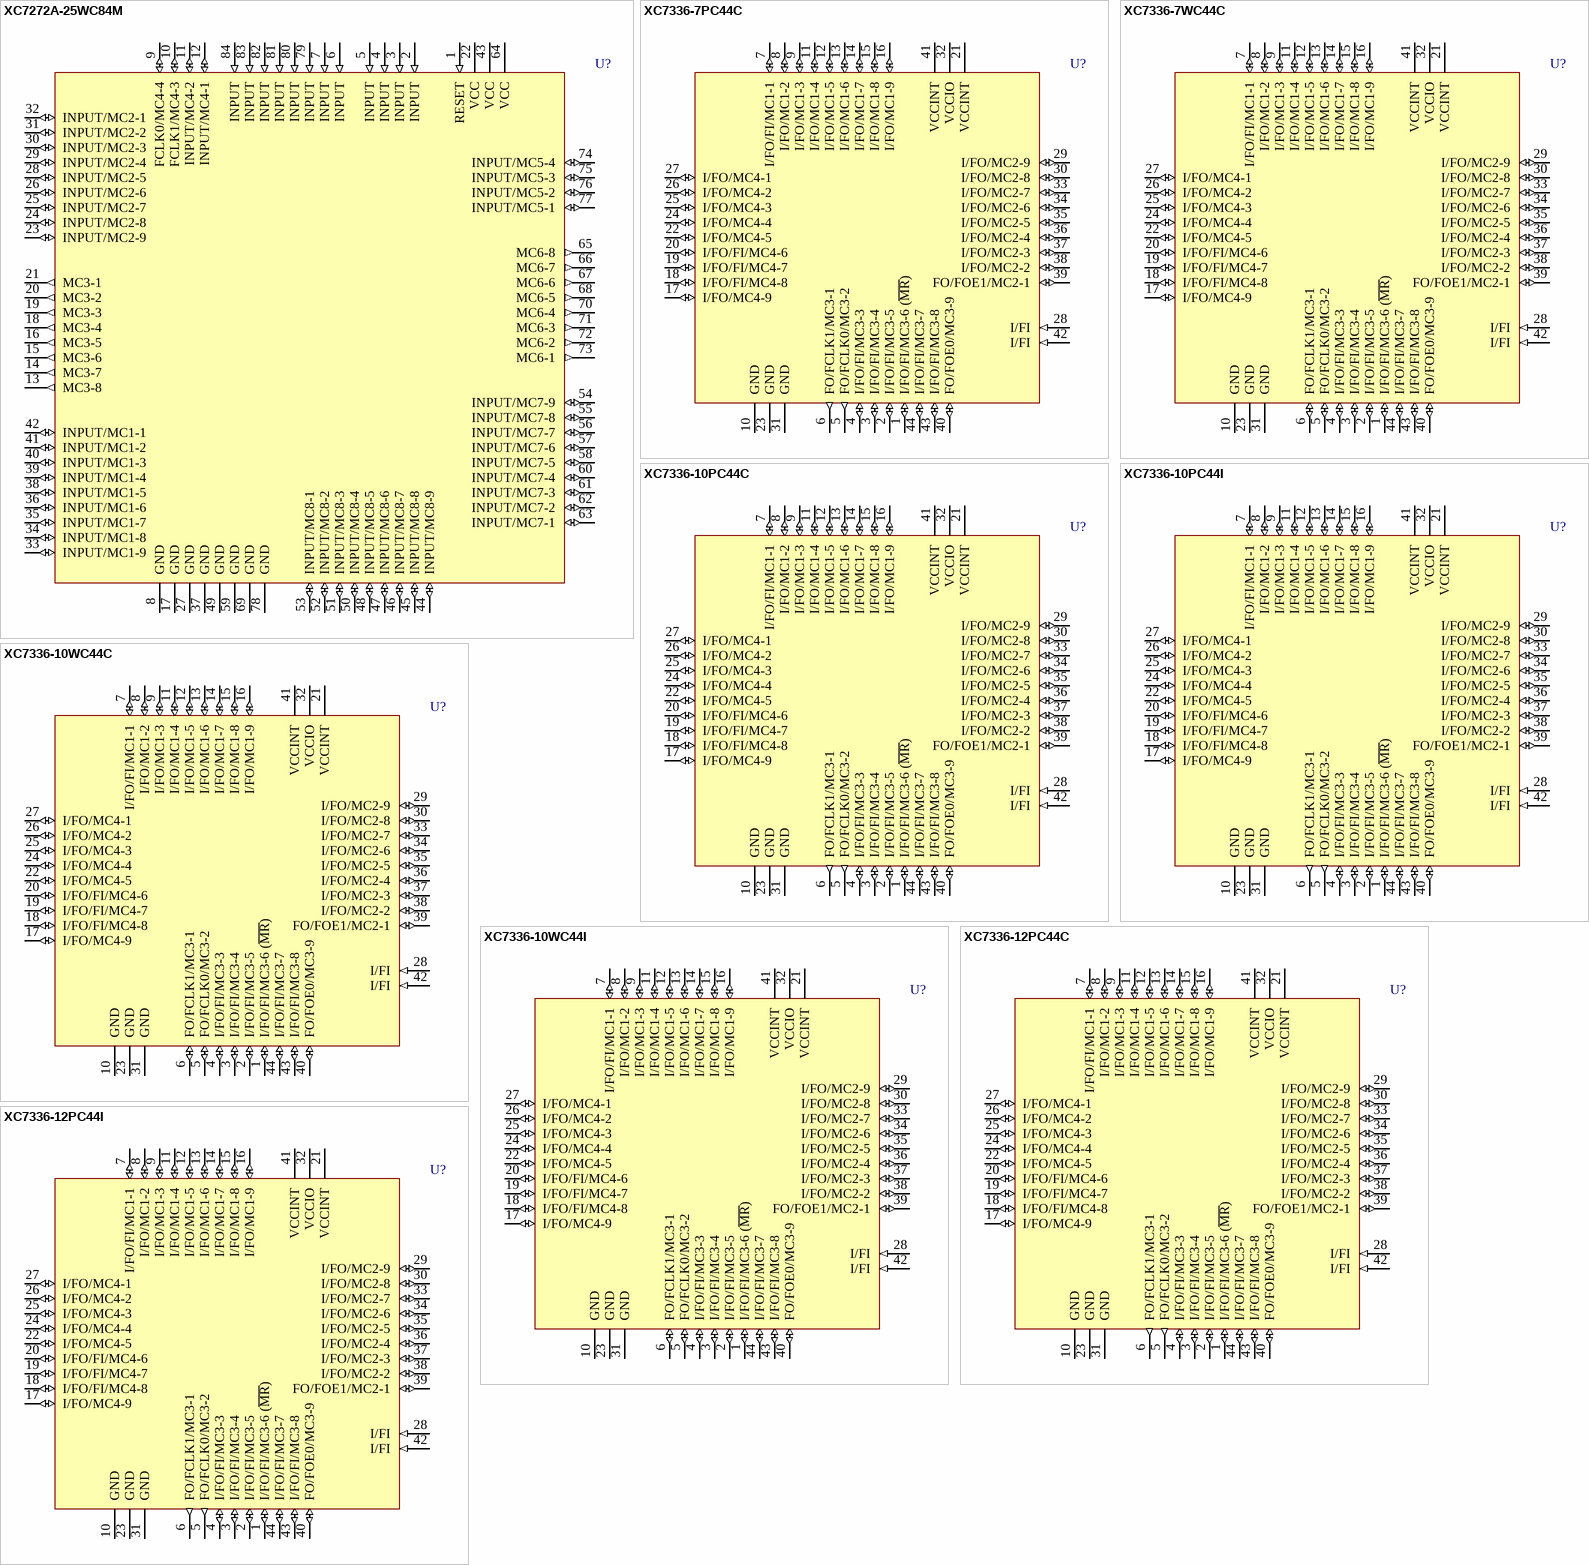
[diagram p14: symbols XC7272A-25WC84M to XC7336-12PC44I]

## XC7272A-25WC84M
designator U?
72 Macrocell CMOS EPLD, with 42 I/O Pins, 84-Pin CLCC, Military Grade; Published: 8-Jun-2000; LatestRevisionDate: 13-Apr-2006; LatestRevisionNote: IPC-7351 Footprint Added.; DatasheetVersion: 1994; PackageVersion: 1994; PackageReference: WC84; Publisher: Altium Limited; PackageDescription: 84-Pin Window Ceramic Leaded Chip Carrier (WC84); Code_IPC: PLCC-84; ComponentLink1Description: Manufacturer Link; ComponentLink1URL: http://www.xilinx.com/; ComponentLink2Description: Discontinuation Notice; ComponentLink2URL: http://direct.xilinx.com/bvdocs/notifications/pdn97008a.pdf
footprint WC84_N (Leaded Chip Carrier, 84-Leads, Body 29x29mm, Pitch 1.27mm, IPC Medium Density)
footprint WC84_L (Leaded Chip Carrier, 84-Leads, Body 29x29mm, Pitch 1.27mm, IPC High Density)
footprint WC84_M (Leaded Chip Carrier, 84-Leads, Body 29x29mm, Pitch 1.27mm, IPC Low Density)
3D model XC7272A-WC84 (84-Pin Window Ceramic Leaded Chip Carrier (WC84))
pins: 1 RESET (in), 2 INPUT (in), 3 INPUT (in), 4 INPUT (in), 5 INPUT (in), 6 INPUT (in), 7 INPUT (in), 8 GND (power), 9 FCLK0/MC4-4 (io), 10 FCLK1/MC4-3 (io), 11 INPUT/MC4-2 (io), 12 INPUT/MC4-1 (io), 13 MC3-8 (out), 14 MC3-7 (out), 15 MC3-6 (out), 16 MC3-5 (out), 17 GND (power), 18 MC3-4 (out), 19 MC3-3 (out), 20 MC3-2 (out), 21 MC3-1 (out), 22 VCC (power), 23 INPUT/MC2-9 (io), 24 INPUT/MC2-8 (io), 25 INPUT/MC2-7 (io), 26 INPUT/MC2-6 (io), 27 GND (power), 28 INPUT/MC2-5 (io), 29 INPUT/MC2-4 (io), 30 INPUT/MC2-3 (io), 31 INPUT/MC2-2 (io), 32 INPUT/MC2-1 (io), 33 INPUT/MC1-9 (io), 34 INPUT/MC1-8 (io), 35 INPUT/MC1-7 (io), 36 INPUT/MC1-6 (io), 37 GND (power), 38 INPUT/MC1-5 (io), 39 INPUT/MC1-4 (io), 40 INPUT/MC1-3 (io), 41 INPUT/MC1-2 (io), 42 INPUT/MC1-1 (io), 43 VCC (power), 44 INPUT/MC8-9 (io), 45 INPUT/MC8-8 (io), 46 INPUT/MC8-7 (io), 47 INPUT/MC8-6 (io), 48 INPUT/MC8-5 (io), 49 GND (power), 50 INPUT/MC8-4 (io), 51 INPUT/MC8-3 (io), 52 INPUT/MC8-2 (io), 53 INPUT/MC8-1 (io), 54 INPUT/MC7-9 (io), 55 INPUT/MC7-8 (io), 56 INPUT/MC7-7 (io), 57 INPUT/MC7-6 (io), 58 INPUT/MC7-5 (io), 59 GND (power), 60 INPUT/MC7-4 (io), 61 INPUT/MC7-3 (io), 62 INPUT/MC7-2 (io), 63 INPUT/MC7-1 (io), 64 VCC (power), 65 MC6-8 (out), 66 MC6-7 (out), 67 MC6-6 (out), 68 MC6-5 (out), 69 GND (power), 70 MC6-4 (out), 71 MC6-3 (out), 72 MC6-2 (out), 73 MC6-1 (out), 74 INPUT/MC5-4 (io), 75 INPUT/MC5-3 (io), 76 INPUT/MC5-2 (io), 77 INPUT/MC5-1 (io), 78 GND (power), 79 INPUT (in), 80 INPUT (in), 81 INPUT (in), 82 INPUT (in), 83 INPUT (in), 84 INPUT (in)

## XC7336-7PC44C
designator U?
36 Macrocell CMOS EPLD, with 27 I/O Pins, 44-Pin PLCC, Commercial Grade; Published: 8-Jun-2000; LatestRevisionDate: 13-Apr-2006; LatestRevisionNote: IPC-7351 Footprint Added.; DatasheetVersion: 1994; PackageVersion: ver1.2, Jun-2004; PackageReference: PC44; Publisher: Altium Limited; PackageDescription: 44-Pin Plastic Leaded Chip Carrier (PC44); Code_JEDEC: MS-047; Code_IPC: PLCC-44; ComponentLink1Description: Manufacturer Link; ComponentLink1URL: http://www.xilinx.com/; ComponentLink2Description: Discontinuation Notice; ComponentLink2URL: http://direct.xilinx.com/bvdocs/notifications/pdn97008a.pdf
footprint PC44_N (Leaded Chip Carrier, 44-Leads, Body 16.6x16.6mm, Pitch 1.27mm, IPC Medium Density)
footprint PC44_L (Leaded Chip Carrier, 44-Leads, Body 16.6x16.6mm, Pitch 1.27mm, IPC High Density)
footprint PC44_M (Leaded Chip Carrier, 44-Leads, Body 16.6x16.6mm, Pitch 1.27mm, IPC Low Density)
3D model XC7336-PC44 (44-Pin Plastic Leaded Chip Carrier (PC44))
pins: 1 I/FO/FI/MC3-6 (~{MR}) (io), 2 I/FO/FI/MC3-5 (io), 3 I/FO/FI/MC3-4 (io), 4 I/FO/FI/MC3-3 (io), 5 FO/FCLK0/MC3-2 (out), 6 FO/FCLK1/MC3-1 (out), 7 I/FO/FI/MC1-1 (io), 8 I/FO/MC1-2 (io), 9 I/FO/MC1-3 (io), 10 GND (power), 11 I/FO/MC1-4 (io), 12 I/FO/MC1-5 (io), 13 I/FO/MC1-6 (io), 14 I/FO/MC1-7 (io), 15 I/FO/MC1-8 (io), 16 I/FO/MC1-9 (io), 17 I/FO/MC4-9 (io), 18 I/FO/FI/MC4-8 (io), 19 I/FO/FI/MC4-7 (io), 20 I/FO/FI/MC4-6 (io), 21 VCCINT (power), 22 I/FO/MC4-5 (io), 23 GND (power), 24 I/FO/MC4-4 (io), 25 I/FO/MC4-3 (io), 26 I/FO/MC4-2 (io), 27 I/FO/MC4-1 (io), 28 I/FI (in), 29 I/FO/MC2-9 (io), 30 I/FO/MC2-8 (io), 31 GND (power), 32 VCCIO (power), 33 I/FO/MC2-7 (io), 34 I/FO/MC2-6 (io), 35 I/FO/MC2-5 (io), 36 I/FO/MC2-4 (io), 37 I/FO/MC2-3 (io), 38 I/FO/MC2-2 (io), 39 FO/FOE1/MC2-1 (io), 40 FO/FOE0/MC3-9 (io), 41 VCCINT (power), 42 I/FI (in), 43 I/FO/FI/MC3-8 (io), 44 I/FO/FI/MC3-7 (io)